# Altium integrated library ST Microcontroller 8-Bit.IntLib: 1326 symbols (part 27 of 45)
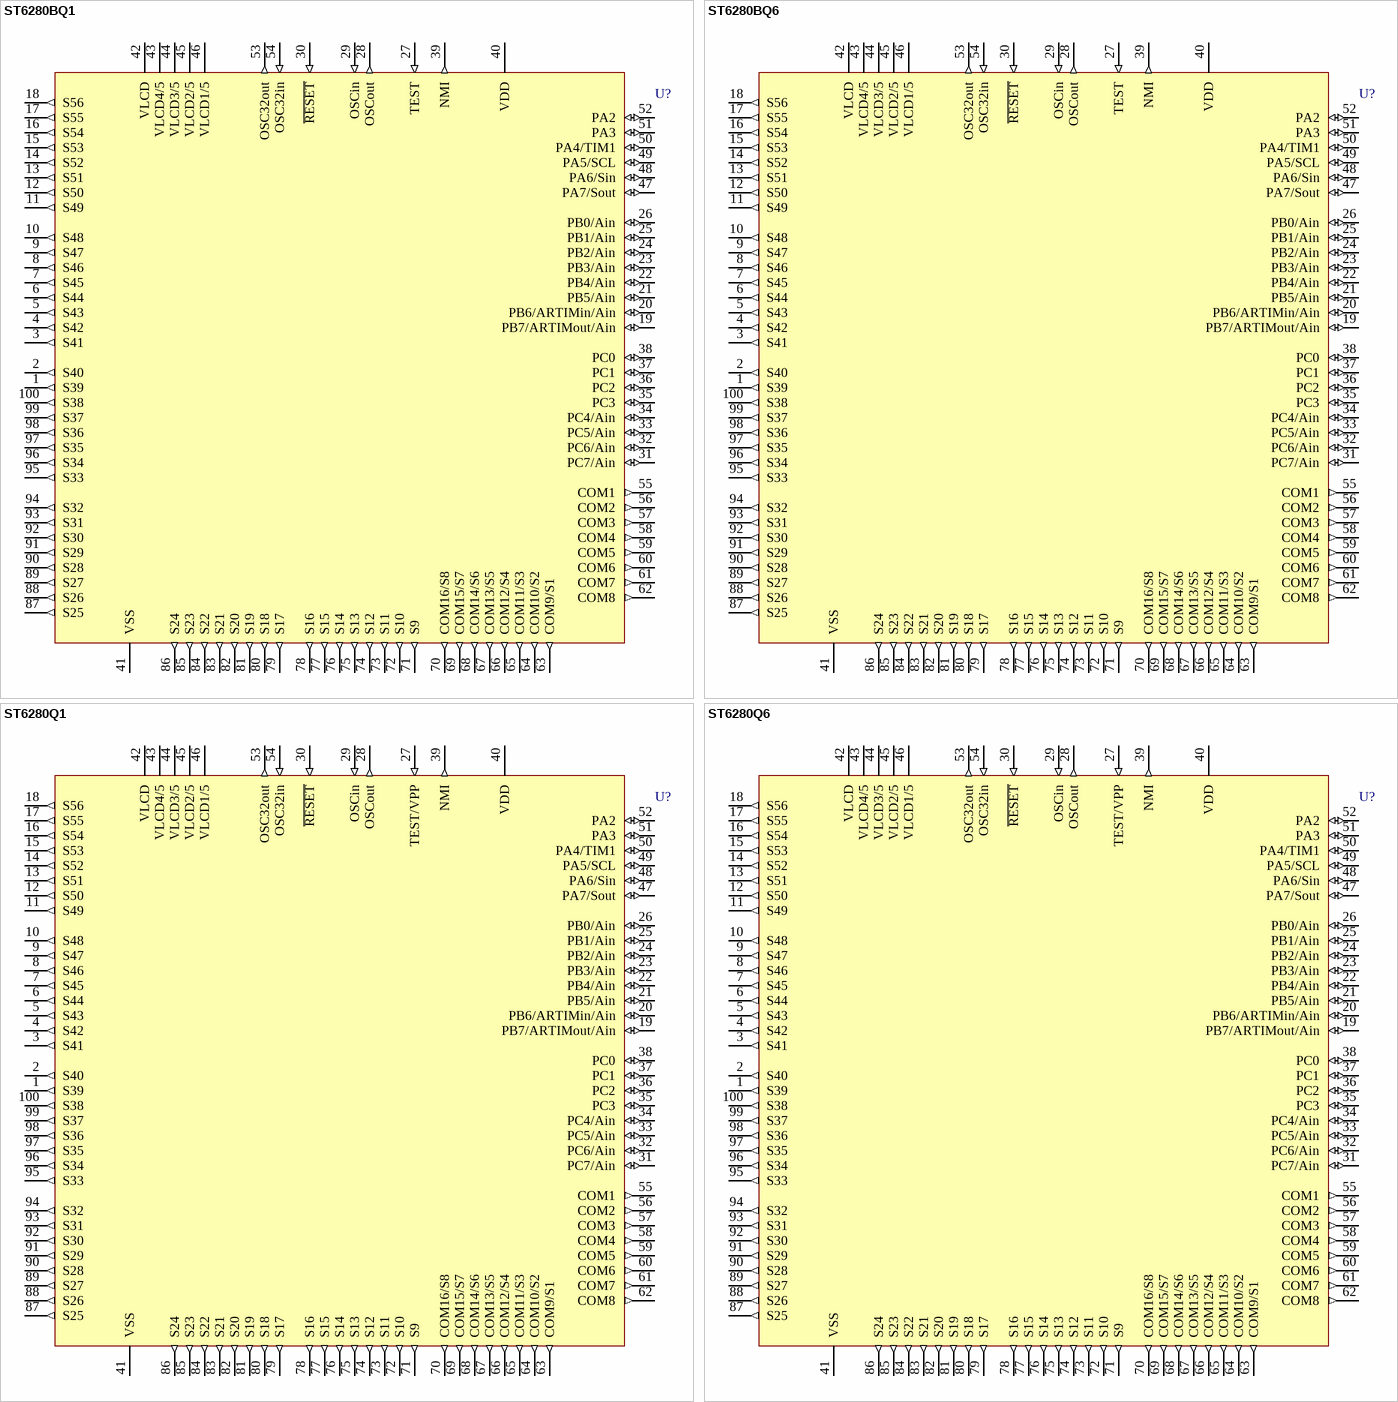
[diagram p193: symbols ST6280BQ1 to ST6280Q6]

## ST6280BQ1
designator U?
8-Bit ROM MCU with LCD Driver, EEPROM and A/D Converter, 100-Pin PQFP, Standard; Note: Pins 35-38, 47-49, 51 and 52 can also sink 20mA for direct LED or TRIAC drive.; Published: 26-May-2004; LatestRevisionDate: 13-Apr-2006; LatestRevisionNote: IPC-7351 Footprint Added.; DatasheetVersion: rev2.9, Jul-2001; PackageVersion: Jun-2003; PackageReference: PQFP100; Publisher: Altium Limited; PackageDescription: 100-Pin Plastic Quad Flat Pack Rectangular 0.65 mm Pitch; Code_IPC: QFP65P1720X2320-100; ComponentLink1Description: Manufacturer Link; ComponentLink1URL: http://www.st.com/; ComponentLink2Description: Datasheet; ComponentLink2URL: http://www.st.com/stonline/products/literature/ds/5517/st6280b.pdf
footprint PQFP100_N (QFP, 100-Leads, Body 20x14mm, Pitch 0.65mm, IPC Medium Density)
footprint PQFP100_L (QFP, 100-Leads, Body 20x14mm, Pitch 0.65mm, IPC High Density)
footprint PQFP100_M (QFP, 100-Leads, Body 20x14mm, Pitch 0.65mm, IPC Low Density)
3D model ST6280B-PQFP100 (100-Pin Plastic Quad Flat Pack Rectangular 0.65 mm Pitch)
pins: 1 S39 (out), 2 S40 (out), 3 S41 (out), 4 S42 (out), 5 S43 (out), 6 S44 (out), 7 S45 (out), 8 S46 (out), 9 S47 (out), 10 S48 (out), 11 S49 (out), 12 S50 (out), 13 S51 (out), 14 S52 (out), 15 S53 (out), 16 S54 (out), 17 S55 (out), 18 S56 (out), 19 PB7/ARTIMout/Ain (io), 20 PB6/ARTIMin/Ain (io), 21 PB5/Ain (io), 22 PB4/Ain (io), 23 PB3/Ain (io), 24 PB2/Ain (io), 25 PB1/Ain (io), 26 PB0/Ain (io), 27 TEST (in), 28 OSCout (out), 29 OSCin (in), 30 ~{RESET} (in), 31 PC7/Ain (io), 32 PC6/Ain (io), 33 PC5/Ain (io), 34 PC4/Ain (io), 35 PC3 (io), 36 PC2 (io), 37 PC1 (io), 38 PC0 (io), 39 NMI (out), 40 VDD (power), 41 VSS (power), 42 VLCD (power), 43 VLCD4/5 (power), 44 VLCD3/5 (power), 45 VLCD2/5 (power), 46 VLCD1/5 (power), 47 PA7/Sout (io), 48 PA6/Sin (io), 49 PA5/SCL (io), 50 PA4/TIM1 (io), 51 PA3 (io), 52 PA2 (io), 53 OSC32out (out), 54 OSC32in (in), 55 COM1 (out), 56 COM2 (out), 57 COM3 (out), 58 COM4 (out), 59 COM5 (out), 60 COM6 (out), 61 COM7 (out), 62 COM8 (out), 63 COM9/S1 (out), 64 COM10/S2 (out), 65 COM11/S3 (out), 66 COM12/S4 (out), 67 COM13/S5 (out), 68 COM14/S6 (out), 69 COM15/S7 (out), 70 COM16/S8 (out), 71 S9 (out), 72 S10 (out), 73 S11 (out), 74 S12 (out), 75 S13 (out), 76 S14 (out), 77 S15 (out), 78 S16 (out), 79 S17 (out), 80 S18 (out), 81 S19 (out), 82 S20 (out), 83 S21 (out), 84 S22 (out), 85 S23 (out), 86 S24 (out), 87 S25 (out), 88 S26 (out), 89 S27 (out), 90 S28 (out), 91 S29 (out), 92 S30 (out), 93 S31 (out), 94 S32 (out), 95 S33 (out), 96 S34 (out), 97 S35 (out), 98 S36 (out), 99 S37 (out), 100 S38 (out)

## ST6280BQ6
designator U?
8-Bit ROM MCU with LCD Driver, EEPROM and A/D Converter, 100-Pin PQFP, Industrial; Note: Pins 35-38, 47-49, 51 and 52 can also sink 20mA for direct LED or TRIAC drive.; Published: 26-May-2004; LatestRevisionDate: 13-Apr-2006; LatestRevisionNote: IPC-7351 Footprint Added.; DatasheetVersion: rev2.9, Jul-2001; PackageVersion: Jun-2003; PackageReference: PQFP100; Publisher: Altium Limited; PackageDescription: 100-Pin Plastic Quad Flat Pack Rectangular 0.65 mm Pitch; Code_IPC: QFP65P1720X2320-100; ComponentLink1Description: Manufacturer Link; ComponentLink1URL: http://www.st.com/; ComponentLink2Description: Datasheet; ComponentLink2URL: http://www.st.com/stonline/products/literature/ds/5517/st6280b.pdf
footprint PQFP100_N (QFP, 100-Leads, Body 20x14mm, Pitch 0.65mm, IPC Medium Density)
footprint PQFP100_L (QFP, 100-Leads, Body 20x14mm, Pitch 0.65mm, IPC High Density)
footprint PQFP100_M (QFP, 100-Leads, Body 20x14mm, Pitch 0.65mm, IPC Low Density)
3D model ST6280B-PQFP100 (100-Pin Plastic Quad Flat Pack Rectangular 0.65 mm Pitch)
pins: 1 S39 (out), 2 S40 (out), 3 S41 (out), 4 S42 (out), 5 S43 (out), 6 S44 (out), 7 S45 (out), 8 S46 (out), 9 S47 (out), 10 S48 (out), 11 S49 (out), 12 S50 (out), 13 S51 (out), 14 S52 (out), 15 S53 (out), 16 S54 (out), 17 S55 (out), 18 S56 (out), 19 PB7/ARTIMout/Ain (io), 20 PB6/ARTIMin/Ain (io), 21 PB5/Ain (io), 22 PB4/Ain (io), 23 PB3/Ain (io), 24 PB2/Ain (io), 25 PB1/Ain (io), 26 PB0/Ain (io), 27 TEST (in), 28 OSCout (out), 29 OSCin (in), 30 ~{RESET} (in), 31 PC7/Ain (io), 32 PC6/Ain (io), 33 PC5/Ain (io), 34 PC4/Ain (io), 35 PC3 (io), 36 PC2 (io), 37 PC1 (io), 38 PC0 (io), 39 NMI (out), 40 VDD (power), 41 VSS (power), 42 VLCD (power), 43 VLCD4/5 (power), 44 VLCD3/5 (power), 45 VLCD2/5 (power), 46 VLCD1/5 (power), 47 PA7/Sout (io), 48 PA6/Sin (io), 49 PA5/SCL (io), 50 PA4/TIM1 (io), 51 PA3 (io), 52 PA2 (io), 53 OSC32out (out), 54 OSC32in (in), 55 COM1 (out), 56 COM2 (out), 57 COM3 (out), 58 COM4 (out), 59 COM5 (out), 60 COM6 (out), 61 COM7 (out), 62 COM8 (out), 63 COM9/S1 (out), 64 COM10/S2 (out), 65 COM11/S3 (out), 66 COM12/S4 (out), 67 COM13/S5 (out), 68 COM14/S6 (out), 69 COM15/S7 (out), 70 COM16/S8 (out), 71 S9 (out), 72 S10 (out), 73 S11 (out), 74 S12 (out), 75 S13 (out), 76 S14 (out), 77 S15 (out), 78 S16 (out), 79 S17 (out), 80 S18 (out), 81 S19 (out), 82 S20 (out), 83 S21 (out), 84 S22 (out), 85 S23 (out), 86 S24 (out), 87 S25 (out), 88 S26 (out), 89 S27 (out), 90 S28 (out), 91 S29 (out), 92 S30 (out), 93 S31 (out), 94 S32 (out), 95 S33 (out), 96 S34 (out), 97 S35 (out), 98 S36 (out), 99 S37 (out), 100 S38 (out)

## ST6280Q1
designator U?
8-Bit HCMOS MCU with Dot Matrix LCD Driver, EEPROM and A/D Converter; Published: 24-Aug-2001; LatestRevisionDate: 13-Apr-2006; LatestRevisionNote: IPC-7351 Footprint Added.; DatasheetVersion: Apr-1995; PackageVersion: Jun-2003; PackageReference: PQFP100; Publisher: Altium Limited; PackageDescription: 100-Pin Plastic Quad Flat Pack Rectangular 0.65 mm Pitch; Code_IPC: QFP65P1720X2320-100; ComponentLink1Description: Manufacturer Link; ComponentLink1URL: http://www.st.com/
footprint PQFP100_N (QFP, 100-Leads, Body 20x14mm, Pitch 0.65mm, IPC Medium Density)
footprint PQFP100_L (QFP, 100-Leads, Body 20x14mm, Pitch 0.65mm, IPC High Density)
footprint PQFP100_M (QFP, 100-Leads, Body 20x14mm, Pitch 0.65mm, IPC Low Density)
3D model ST6280-PQFP100 (100-Pin Plastic Quad Flat Pack Rectangular 0.65 mm Pitch)
pins: 1 S39 (out), 2 S40 (out), 3 S41 (out), 4 S42 (out), 5 S43 (out), 6 S44 (out), 7 S45 (out), 8 S46 (out), 9 S47 (out), 10 S48 (out), 11 S49 (out), 12 S50 (out), 13 S51 (out), 14 S52 (out), 15 S53 (out), 16 S54 (out), 17 S55 (out), 18 S56 (out), 19 PB7/ARTIMout/Ain (io), 20 PB6/ARTIMin/Ain (io), 21 PB5/Ain (io), 22 PB4/Ain (io), 23 PB3/Ain (io), 24 PB2/Ain (io), 25 PB1/Ain (io), 26 PB0/Ain (io), 27 TEST/VPP (in), 28 OSCout (out), 29 OSCin (in), 30 ~{RESET} (in), 31 PC7/Ain (io), 32 PC6/Ain (io), 33 PC5/Ain (io), 34 PC4/Ain (io), 35 PC3 (io), 36 PC2 (io), 37 PC1 (io), 38 PC0 (io), 39 NMI (out), 40 VDD (power), 41 VSS (power), 42 VLCD (power), 43 VLCD4/5 (power), 44 VLCD3/5 (power), 45 VLCD2/5 (power), 46 VLCD1/5 (power), 47 PA7/Sout (io), 48 PA6/Sin (io), 49 PA5/SCL (io), 50 PA4/TIM1 (io), 51 PA3 (io), 52 PA2 (io), 53 OSC32out (out), 54 OSC32in (in), 55 COM1 (out), 56 COM2 (out), 57 COM3 (out), 58 COM4 (out), 59 COM5 (out), 60 COM6 (out), 61 COM7 (out), 62 COM8 (out), 63 COM9/S1 (out), 64 COM10/S2 (out), 65 COM11/S3 (out), 66 COM12/S4 (out), 67 COM13/S5 (out), 68 COM14/S6 (out), 69 COM15/S7 (out), 70 COM16/S8 (out), 71 S9 (out), 72 S10 (out), 73 S11 (out), 74 S12 (out), 75 S13 (out), 76 S14 (out), 77 S15 (out), 78 S16 (out), 79 S17 (out), 80 S18 (out), 81 S19 (out), 82 S20 (out), 83 S21 (out), 84 S22 (out), 85 S23 (out), 86 S24 (out), 87 S25 (out), 88 S26 (out), 89 S27 (out), 90 S28 (out), 91 S29 (out), 92 S30 (out), 93 S31 (out), 94 S32 (out), 95 S33 (out), 96 S34 (out), 97 S35 (out), 98 S36 (out), 99 S37 (out), 100 S38 (out)

## ST6280Q6
designator U?
8-Bit HCMOS MCU with Dot Matrix LCD Driver, EEPROM and A/D Converter; Published: 24-Aug-2001; LatestRevisionDate: 13-Apr-2006; LatestRevisionNote: IPC-7351 Footprint Added.; DatasheetVersion: Apr-1995; PackageVersion: Jun-2003; PackageReference: PQFP100; Publisher: Altium Limited; PackageDescription: 100-Pin Plastic Quad Flat Pack Rectangular 0.65 mm Pitch; Code_IPC: QFP65P1720X2320-100; ComponentLink1Description: Manufacturer Link; ComponentLink1URL: http://www.st.com/
footprint PQFP100_N (QFP, 100-Leads, Body 20x14mm, Pitch 0.65mm, IPC Medium Density)
footprint PQFP100_L (QFP, 100-Leads, Body 20x14mm, Pitch 0.65mm, IPC High Density)
footprint PQFP100_M (QFP, 100-Leads, Body 20x14mm, Pitch 0.65mm, IPC Low Density)
3D model ST6280-PQFP100 (100-Pin Plastic Quad Flat Pack Rectangular 0.65 mm Pitch)
pins: 1 S39 (out), 2 S40 (out), 3 S41 (out), 4 S42 (out), 5 S43 (out), 6 S44 (out), 7 S45 (out), 8 S46 (out), 9 S47 (out), 10 S48 (out), 11 S49 (out), 12 S50 (out), 13 S51 (out), 14 S52 (out), 15 S53 (out), 16 S54 (out), 17 S55 (out), 18 S56 (out), 19 PB7/ARTIMout/Ain (io), 20 PB6/ARTIMin/Ain (io), 21 PB5/Ain (io), 22 PB4/Ain (io), 23 PB3/Ain (io), 24 PB2/Ain (io), 25 PB1/Ain (io), 26 PB0/Ain (io), 27 TEST/VPP (in), 28 OSCout (out), 29 OSCin (in), 30 ~{RESET} (in), 31 PC7/Ain (io), 32 PC6/Ain (io), 33 PC5/Ain (io), 34 PC4/Ain (io), 35 PC3 (io), 36 PC2 (io), 37 PC1 (io), 38 PC0 (io), 39 NMI (out), 40 VDD (power), 41 VSS (power), 42 VLCD (power), 43 VLCD4/5 (power), 44 VLCD3/5 (power), 45 VLCD2/5 (power), 46 VLCD1/5 (power), 47 PA7/Sout (io), 48 PA6/Sin (io), 49 PA5/SCL (io), 50 PA4/TIM1 (io), 51 PA3 (io), 52 PA2 (io), 53 OSC32out (out), 54 OSC32in (in), 55 COM1 (out), 56 COM2 (out), 57 COM3 (out), 58 COM4 (out), 59 COM5 (out), 60 COM6 (out), 61 COM7 (out), 62 COM8 (out), 63 COM9/S1 (out), 64 COM10/S2 (out), 65 COM11/S3 (out), 66 COM12/S4 (out), 67 COM13/S5 (out), 68 COM14/S6 (out), 69 COM15/S7 (out), 70 COM16/S8 (out), 71 S9 (out), 72 S10 (out), 73 S11 (out), 74 S12 (out), 75 S13 (out), 76 S14 (out), 77 S15 (out), 78 S16 (out), 79 S17 (out), 80 S18 (out), 81 S19 (out), 82 S20 (out), 83 S21 (out), 84 S22 (out), 85 S23 (out), 86 S24 (out), 87 S25 (out), 88 S26 (out), 89 S27 (out), 90 S28 (out), 91 S29 (out), 92 S30 (out), 93 S31 (out), 94 S32 (out), 95 S33 (out), 96 S34 (out), 97 S35 (out), 98 S36 (out), 99 S37 (out), 100 S38 (out)

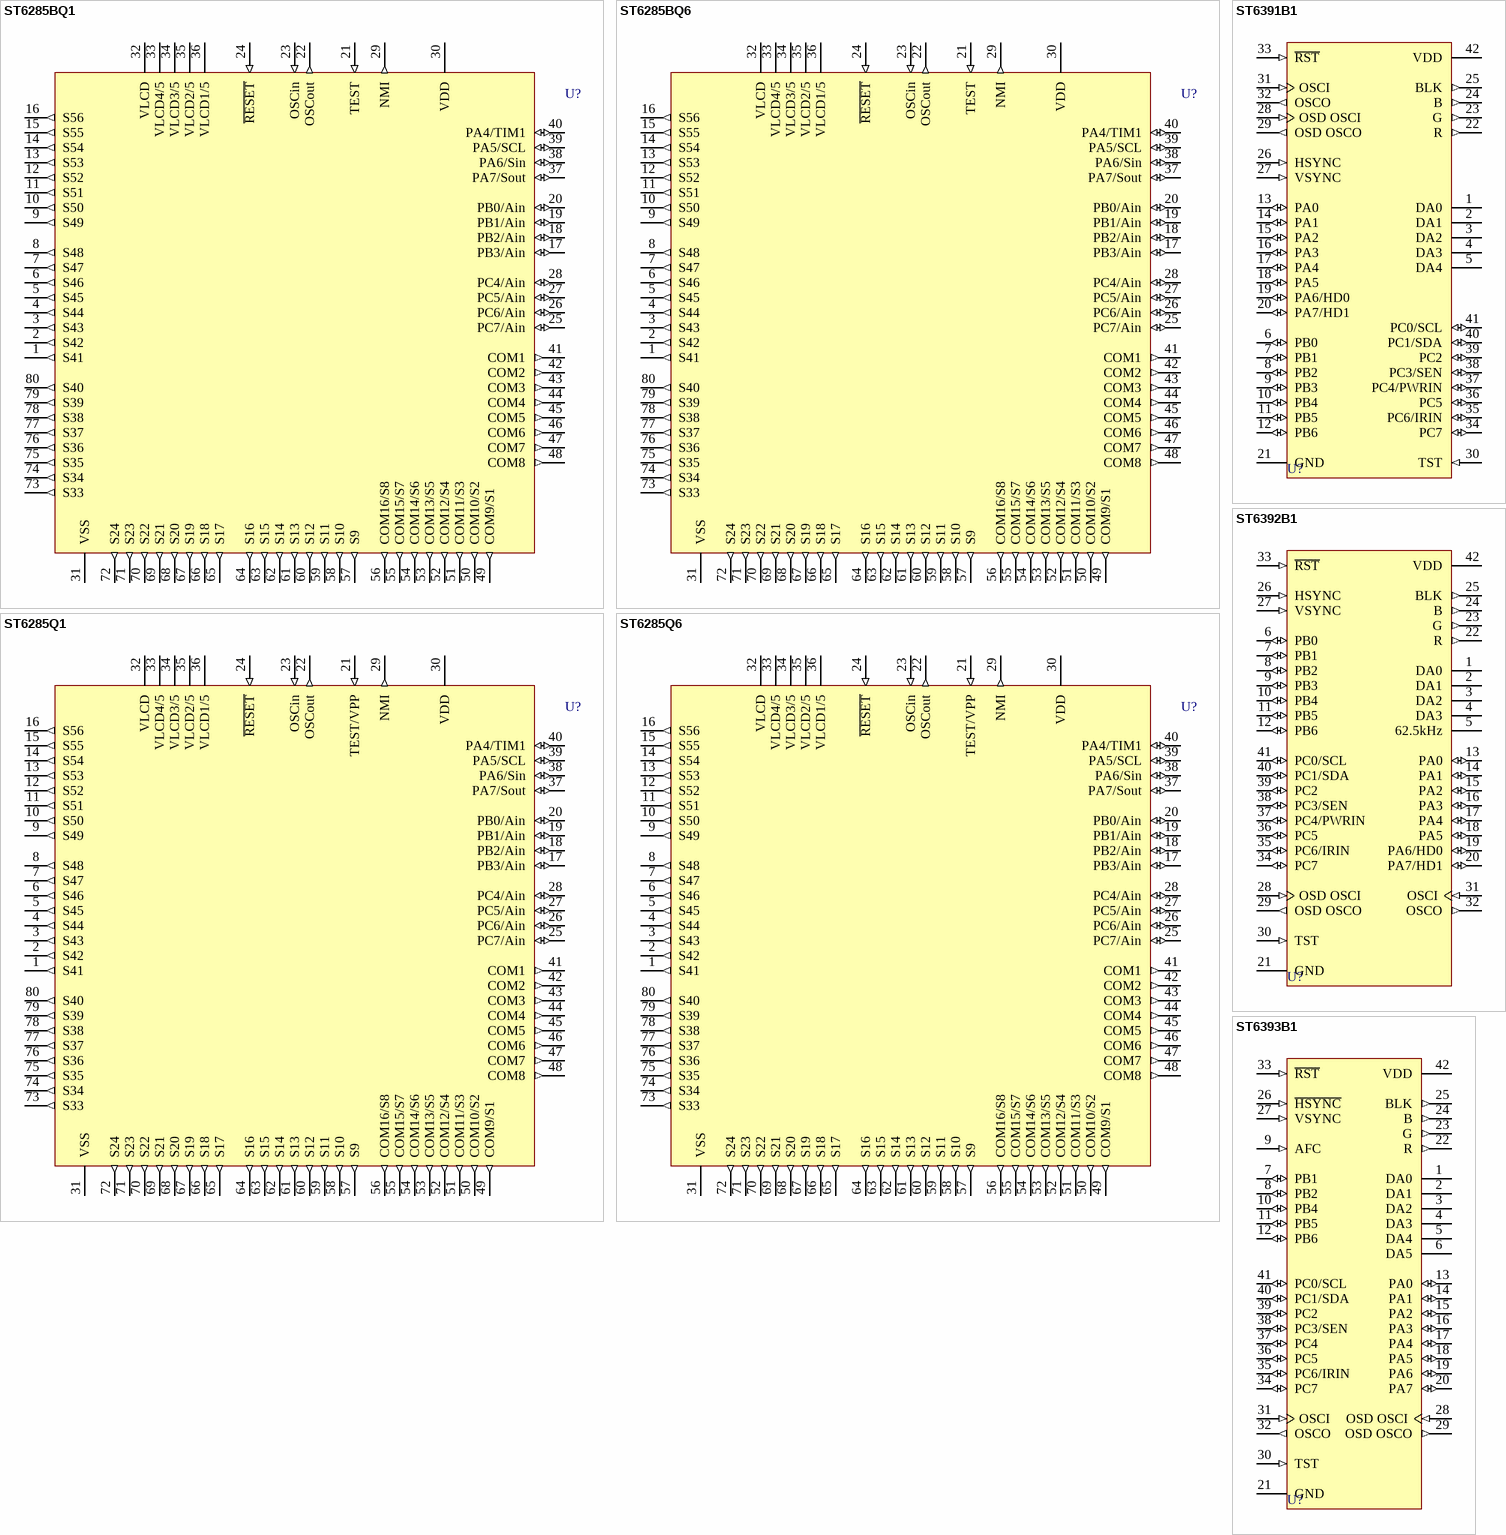
[diagram p91: symbols ST6285BQ1 to ST6393B1]

## ST6285BQ1
designator U?
8-Bit ROM MCU with LCD Driver, EEPROM and A/D Converter, 80-Pin PQFP, Standard; Note: Pins 37 to 40 can also sink 20mA for direct LED or TRIAC drive.; Published: 26-May-2004; LatestRevisionDate: 13-Apr-2006; LatestRevisionNote: IPC-7351 Footprint Added.; DatasheetVersion: rev2.6, Jul-2001; PackageVersion: Jul-2001; PackageReference: PQFP80; Publisher: Altium Limited; PackageDescription: 80-Pin Plastic Quad Flat Pack Rectangular 0.8 mm Pitch; ComponentLink1Description: Manufacturer Link; ComponentLink1URL: http://www.st.com/; ComponentLink2Description: Datasheet; ComponentLink2URL: http://www.st.com/stonline/products/literature/ds/5695/st6285b.pdf
footprint PQFP80_N (QFP, 80-Leads, Body 20x14mm, Pitch 0.8mm, IPC Medium Density)
footprint PQFP80_L (QFP, 80-Leads, Body 20x14mm, Pitch 0.8mm, IPC High Density)
footprint PQFP80_M (QFP, 80-Leads, Body 20x14mm, Pitch 0.8mm, IPC Low Density)
3D model ST6285B-PQFP80 (80-Pin Plastic Quad Flat Pack Rectangular 0.8 mm Pitch)
pins: 1 S41 (out), 2 S42 (out), 3 S43 (out), 4 S44 (out), 5 S45 (out), 6 S46 (out), 7 S47 (out), 8 S48 (out), 9 S49 (out), 10 S50 (out), 11 S51 (out), 12 S52 (out), 13 S53 (out), 14 S54 (out), 15 S55 (out), 16 S56 (out), 17 PB3/Ain (io), 18 PB2/Ain (io), 19 PB1/Ain (io), 20 PB0/Ain (io), 21 TEST (in), 22 OSCout (out), 23 OSCin (in), 24 ~{RESET} (in), 25 PC7/Ain (io), 26 PC6/Ain (io), 27 PC5/Ain (io), 28 PC4/Ain (io), 29 NMI (out), 30 VDD (power), 31 VSS (power), 32 VLCD (power), 33 VLCD4/5 (power), 34 VLCD3/5 (power), 35 VLCD2/5 (power), 36 VLCD1/5 (power), 37 PA7/Sout (io), 38 PA6/Sin (io), 39 PA5/SCL (io), 40 PA4/TIM1 (io), 41 COM1 (out), 42 COM2 (out), 43 COM3 (out), 44 COM4 (out), 45 COM5 (out), 46 COM6 (out), 47 COM7 (out), 48 COM8 (out), 49 COM9/S1 (out), 50 COM10/S2 (out), 51 COM11/S3 (out), 52 COM12/S4 (out), 53 COM13/S5 (out), 54 COM14/S6 (out), 55 COM15/S7 (out), 56 COM16/S8 (out), 57 S9 (out), 58 S10 (out), 59 S11 (out), 60 S12 (out), 61 S13 (out), 62 S14 (out), 63 S15 (out), 64 S16 (out), 65 S17 (out), 66 S18 (out), 67 S19 (out), 68 S20 (out), 69 S21 (out), 70 S22 (out), 71 S23 (out), 72 S24 (out), 73 S33 (out), 74 S34 (out), 75 S35 (out), 76 S36 (out), 77 S37 (out), 78 S38 (out), 79 S39 (out), 80 S40 (out)

## ST6285BQ6
designator U?
8-Bit ROM MCU with LCD Driver, EEPROM and A/D Converter, 80-Pin PQFP, Industrial; Note: Pins 37 to 40 can also sink 20mA for direct LED or TRIAC drive.; Published: 26-May-2004; LatestRevisionDate: 13-Apr-2006; LatestRevisionNote: IPC-7351 Footprint Added.; DatasheetVersion: rev2.6, Jul-2001; PackageVersion: Jul-2001; PackageReference: PQFP80; Publisher: Altium Limited; PackageDescription: 80-Pin Plastic Quad Flat Pack Rectangular 0.8 mm Pitch; ComponentLink1Description: Manufacturer Link; ComponentLink1URL: http://www.st.com/; ComponentLink2Description: Datasheet; ComponentLink2URL: http://www.st.com/stonline/products/literature/ds/5695/st6285b.pdf
footprint PQFP80_N (QFP, 80-Leads, Body 20x14mm, Pitch 0.8mm, IPC Medium Density)
footprint PQFP80_L (QFP, 80-Leads, Body 20x14mm, Pitch 0.8mm, IPC High Density)
footprint PQFP80_M (QFP, 80-Leads, Body 20x14mm, Pitch 0.8mm, IPC Low Density)
3D model ST6285B-PQFP80 (80-Pin Plastic Quad Flat Pack Rectangular 0.8 mm Pitch)
pins: 1 S41 (out), 2 S42 (out), 3 S43 (out), 4 S44 (out), 5 S45 (out), 6 S46 (out), 7 S47 (out), 8 S48 (out), 9 S49 (out), 10 S50 (out), 11 S51 (out), 12 S52 (out), 13 S53 (out), 14 S54 (out), 15 S55 (out), 16 S56 (out), 17 PB3/Ain (io), 18 PB2/Ain (io), 19 PB1/Ain (io), 20 PB0/Ain (io), 21 TEST (in), 22 OSCout (out), 23 OSCin (in), 24 ~{RESET} (in), 25 PC7/Ain (io), 26 PC6/Ain (io), 27 PC5/Ain (io), 28 PC4/Ain (io), 29 NMI (out), 30 VDD (power), 31 VSS (power), 32 VLCD (power), 33 VLCD4/5 (power), 34 VLCD3/5 (power), 35 VLCD2/5 (power), 36 VLCD1/5 (power), 37 PA7/Sout (io), 38 PA6/Sin (io), 39 PA5/SCL (io), 40 PA4/TIM1 (io), 41 COM1 (out), 42 COM2 (out), 43 COM3 (out), 44 COM4 (out), 45 COM5 (out), 46 COM6 (out), 47 COM7 (out), 48 COM8 (out), 49 COM9/S1 (out), 50 COM10/S2 (out), 51 COM11/S3 (out), 52 COM12/S4 (out), 53 COM13/S5 (out), 54 COM14/S6 (out), 55 COM15/S7 (out), 56 COM16/S8 (out), 57 S9 (out), 58 S10 (out), 59 S11 (out), 60 S12 (out), 61 S13 (out), 62 S14 (out), 63 S15 (out), 64 S16 (out), 65 S17 (out), 66 S18 (out), 67 S19 (out), 68 S20 (out), 69 S21 (out), 70 S22 (out), 71 S23 (out), 72 S24 (out), 73 S33 (out), 74 S34 (out), 75 S35 (out), 76 S36 (out), 77 S37 (out), 78 S38 (out), 79 S39 (out), 80 S40 (out)

## ST6285Q1
designator U?
8-Bit HCMOS MCU with Dot Matrix LCD Driver and A/D Converter; Published: 24-Aug-2001; LatestRevisionDate: 13-Apr-2006; LatestRevisionNote: IPC-7351 Footprint Added.; DatasheetVersion: Apr-1995; PackageVersion: Jul-2001; PackageReference: PQFP80; Publisher: Altium Limited; PackageDescription: 80-Pin Plastic Quad Flat Pack Rectangular 0.8 mm Pitch; ComponentLink1Description: Manufacturer Link; ComponentLink1URL: http://www.st.com/
footprint PQFP80_N (QFP, 80-Leads, Body 20x14mm, Pitch 0.8mm, IPC Medium Density)
footprint PQFP80_L (QFP, 80-Leads, Body 20x14mm, Pitch 0.8mm, IPC High Density)
footprint PQFP80_M (QFP, 80-Leads, Body 20x14mm, Pitch 0.8mm, IPC Low Density)
3D model ST6285-PQFP80 (80-Pin Plastic Quad Flat Pack Rectangular 0.8 mm Pitch)
pins: 1 S41 (out), 2 S42 (out), 3 S43 (out), 4 S44 (out), 5 S45 (out), 6 S46 (out), 7 S47 (out), 8 S48 (out), 9 S49 (out), 10 S50 (out), 11 S51 (out), 12 S52 (out), 13 S53 (out), 14 S54 (out), 15 S55 (out), 16 S56 (out), 17 PB3/Ain (io), 18 PB2/Ain (io), 19 PB1/Ain (io), 20 PB0/Ain (io), 21 TEST/VPP (in), 22 OSCout (out), 23 OSCin (in), 24 ~{RESET} (in), 25 PC7/Ain (io), 26 PC6/Ain (io), 27 PC5/Ain (io), 28 PC4/Ain (io), 29 NMI (out), 30 VDD (power), 31 VSS (power), 32 VLCD (power), 33 VLCD4/5 (power), 34 VLCD3/5 (power), 35 VLCD2/5 (power), 36 VLCD1/5 (power), 37 PA7/Sout (io), 38 PA6/Sin (io), 39 PA5/SCL (io), 40 PA4/TIM1 (io), 41 COM1 (out), 42 COM2 (out), 43 COM3 (out), 44 COM4 (out), 45 COM5 (out), 46 COM6 (out), 47 COM7 (out), 48 COM8 (out), 49 COM9/S1 (out), 50 COM10/S2 (out), 51 COM11/S3 (out), 52 COM12/S4 (out), 53 COM13/S5 (out), 54 COM14/S6 (out), 55 COM15/S7 (out), 56 COM16/S8 (out), 57 S9 (out), 58 S10 (out), 59 S11 (out), 60 S12 (out), 61 S13 (out), 62 S14 (out), 63 S15 (out), 64 S16 (out), 65 S17 (out), 66 S18 (out), 67 S19 (out), 68 S20 (out), 69 S21 (out), 70 S22 (out), 71 S23 (out), 72 S24 (out), 73 S33 (out), 74 S34 (out), 75 S35 (out), 76 S36 (out), 77 S37 (out), 78 S38 (out), 79 S39 (out), 80 S40 (out)

## ST6285Q6
designator U?
8-Bit HCMOS MCU with Dot Matrix LCD Driver and A/D Converter; Published: 24-Aug-2001; LatestRevisionDate: 13-Apr-2006; LatestRevisionNote: IPC-7351 Footprint Added.; DatasheetVersion: Apr-1995; PackageVersion: Jul-2001; PackageReference: PQFP80; Publisher: Altium Limited; PackageDescription: 80-Pin Plastic Quad Flat Pack Rectangular 0.8 mm Pitch; ComponentLink1Description: Manufacturer Link; ComponentLink1URL: http://www.st.com/
footprint PQFP80_N (QFP, 80-Leads, Body 20x14mm, Pitch 0.8mm, IPC Medium Density)
footprint PQFP80_L (QFP, 80-Leads, Body 20x14mm, Pitch 0.8mm, IPC High Density)
footprint PQFP80_M (QFP, 80-Leads, Body 20x14mm, Pitch 0.8mm, IPC Low Density)
3D model ST6285-PQFP80 (80-Pin Plastic Quad Flat Pack Rectangular 0.8 mm Pitch)
pins: 1 S41 (out), 2 S42 (out), 3 S43 (out), 4 S44 (out), 5 S45 (out), 6 S46 (out), 7 S47 (out), 8 S48 (out), 9 S49 (out), 10 S50 (out), 11 S51 (out), 12 S52 (out), 13 S53 (out), 14 S54 (out), 15 S55 (out), 16 S56 (out), 17 PB3/Ain (io), 18 PB2/Ain (io), 19 PB1/Ain (io), 20 PB0/Ain (io), 21 TEST/VPP (in), 22 OSCout (out), 23 OSCin (in), 24 ~{RESET} (in), 25 PC7/Ain (io), 26 PC6/Ain (io), 27 PC5/Ain (io), 28 PC4/Ain (io), 29 NMI (out), 30 VDD (power), 31 VSS (power), 32 VLCD (power), 33 VLCD4/5 (power), 34 VLCD3/5 (power), 35 VLCD2/5 (power), 36 VLCD1/5 (power), 37 PA7/Sout (io), 38 PA6/Sin (io), 39 PA5/SCL (io), 40 PA4/TIM1 (io), 41 COM1 (out), 42 COM2 (out), 43 COM3 (out), 44 COM4 (out), 45 COM5 (out), 46 COM6 (out), 47 COM7 (out), 48 COM8 (out), 49 COM9/S1 (out), 50 COM10/S2 (out), 51 COM11/S3 (out), 52 COM12/S4 (out), 53 COM13/S5 (out), 54 COM14/S6 (out), 55 COM15/S7 (out), 56 COM16/S8 (out), 57 S9 (out), 58 S10 (out), 59 S11 (out), 60 S12 (out), 61 S13 (out), 62 S14 (out), 63 S15 (out), 64 S16 (out), 65 S17 (out), 66 S18 (out), 67 S19 (out), 68 S20 (out), 69 S21 (out), 70 S22 (out), 71 S23 (out), 72 S24 (out), 73 S33 (out), 74 S34 (out), 75 S35 (out), 76 S36 (out), 77 S37 (out), 78 S38 (out), 79 S39 (out), 80 S40 (out)

## ST6391B1
designator U?
8-Bit HCMOS MCU For TV Frequency Synthesis with OSD; Published: 24-Aug-2001; LatestRevisionDate: 06-Jun-2005; LatestRevisionNote: Stylized 3D Model Added.; DatasheetVersion: Oct-1993; PackageVersion: Oct-2003; PackageReference: PSDIP42; Publisher: Altium Limited; PackageDescription: DIP, Plastic Shrink; 42 Leads; Row Spacing 15.24 mm; Pitch 1.78 mm; ComponentLink1Description: Manufacturer Link; ComponentLink1URL: http://www.st.com/
footprint PSDIP42 (DIP, Plastic Shrink; 42 Leads; Row Spacing 15.24 mm; Pitch 1.78 mm)
3D model PSDIP42 (DIP, Plastic Shrink; 42 Leads; Row Spacing 15.24 mm; Pitch 1.78 mm)
pins: 1 DA0 (oc), 2 DA1 (oc), 3 DA2 (oc), 4 DA3 (oc), 5 DA4 (oc), 6 PB0 (io), 7 PB1 (io), 8 PB2 (io), 9 PB3 (io), 10 PB4 (io), 11 PB5 (io), 12 PB6 (io), 13 PA0 (io), 14 PA1 (io), 15 PA2 (io), 16 PA3 (io), 17 PA4 (io), 18 PA5 (io), 19 PA6/HD0 (io), 20 PA7/HD1 (io), 21 GND (power), 22 R (out), 23 G (out), 24 B (out), 25 BLK (out), 26 HSYNC (in), 27 VSYNC (in), 28 OSD OSCI (in), 29 OSD OSCO (out), 30 TST (in), 31 OSCI (in), 32 OSCO (out), 33 ~{RST} (in), 34 PC7 (io), 35 PC6/IRIN (io), 36 PC5 (io), 37 PC4/PWRIN (io), 38 PC3/SEN (io), 39 PC2 (io), 40 PC1/SDA (io), 41 PC0/SCL (io), 42 VDD (power)

## ST6392B1
designator U?
8-Bit HCMOS MCU For TV Frequency Synthesis with OSD; Published: 24-Aug-2001; LatestRevisionDate: 06-Jun-2005; LatestRevisionNote: Stylized 3D Model Added.; DatasheetVersion: Oct-1993; PackageVersion: Oct-2003; PackageReference: PSDIP42; Publisher: Altium Limited; PackageDescription: DIP, Plastic Shrink; 42 Leads; Row Spacing 15.24 mm; Pitch 1.78 mm; ComponentLink1Description: Manufacturer Link; ComponentLink1URL: http://www.st.com/
footprint PSDIP42 (DIP, Plastic Shrink; 42 Leads; Row Spacing 15.24 mm; Pitch 1.78 mm)
3D model PSDIP42 (DIP, Plastic Shrink; 42 Leads; Row Spacing 15.24 mm; Pitch 1.78 mm)
pins: 1 DA0 (oc), 2 DA1 (oc), 3 DA2 (oc), 4 DA3 (oc), 5 62.5kHz (oc), 6 PB0 (io), 7 PB1 (io), 8 PB2 (io), 9 PB3 (io), 10 PB4 (io), 11 PB5 (io), 12 PB6 (io), 13 PA0 (io), 14 PA1 (io), 15 PA2 (io), 16 PA3 (io), 17 PA4 (io), 18 PA5 (io), 19 PA6/HD0 (io), 20 PA7/HD1 (io), 21 GND (power), 22 R (out), 23 G (out), 24 B (out), 25 BLK (out), 26 HSYNC (in), 27 VSYNC (in), 28 OSD OSCI (in), 29 OSD OSCO (out), 30 TST (in), 31 OSCI (in), 32 OSCO (out), 33 ~{RST} (in), 34 PC7 (io), 35 PC6/IRIN (io), 36 PC5 (io), 37 PC4/PWRIN (io), 38 PC3/SEN (io), 39 PC2 (io), 40 PC1/SDA (io), 41 PC0/SCL (io), 42 VDD (power)

## ST6393B1
designator U?
8-Bit HCMOS MCU For TV Frequency Synthesis with OSD; Published: 24-Aug-2001; LatestRevisionDate: 06-Jun-2005; LatestRevisionNote: Stylized 3D Model Added.; DatasheetVersion: Oct-1993; PackageVersion: Oct-2003; PackageReference: PSDIP42; Publisher: Altium Limited; PackageDescription: DIP, Plastic Shrink; 42 Leads; Row Spacing 15.24 mm; Pitch 1.78 mm; ComponentLink1Description: Manufacturer Link; ComponentLink1URL: http://www.st.com/
footprint PSDIP42 (DIP, Plastic Shrink; 42 Leads; Row Spacing 15.24 mm; Pitch 1.78 mm)
3D model PSDIP42 (DIP, Plastic Shrink; 42 Leads; Row Spacing 15.24 mm; Pitch 1.78 mm)
pins: 1 DA0 (oc), 2 DA1 (oc), 3 DA2 (oc), 4 DA3 (oc), 5 DA4 (oc), 6 DA5 (oc), 7 PB1 (io), 8 PB2 (io), 9 AFC (in), 10 PB4 (io), 11 PB5 (io), 12 PB6 (io), 13 PA0 (io), 14 PA1 (io), 15 PA2 (io), 16 PA3 (io), 17 PA4 (io), 18 PA5 (io), 19 PA6 (io), 20 PA7 (io), 21 GND (power), 22 R (out), 23 G (out), 24 B (out), 25 BLK (out), 26 ~{HSYNC} (in), 27 VSYNC (in), 28 OSD OSCI (in), 29 OSD OSCO (out), 30 TST (in), 31 OSCI (in), 32 OSCO (out), 33 ~{RST} (in), 34 PC7 (io), 35 PC6/IRIN (io), 36 PC5 (io), 37 PC4 (io), 38 PC3/SEN (io), 39 PC2 (io), 40 PC1/SDA (io), 41 PC0/SCL (io), 42 VDD (power)

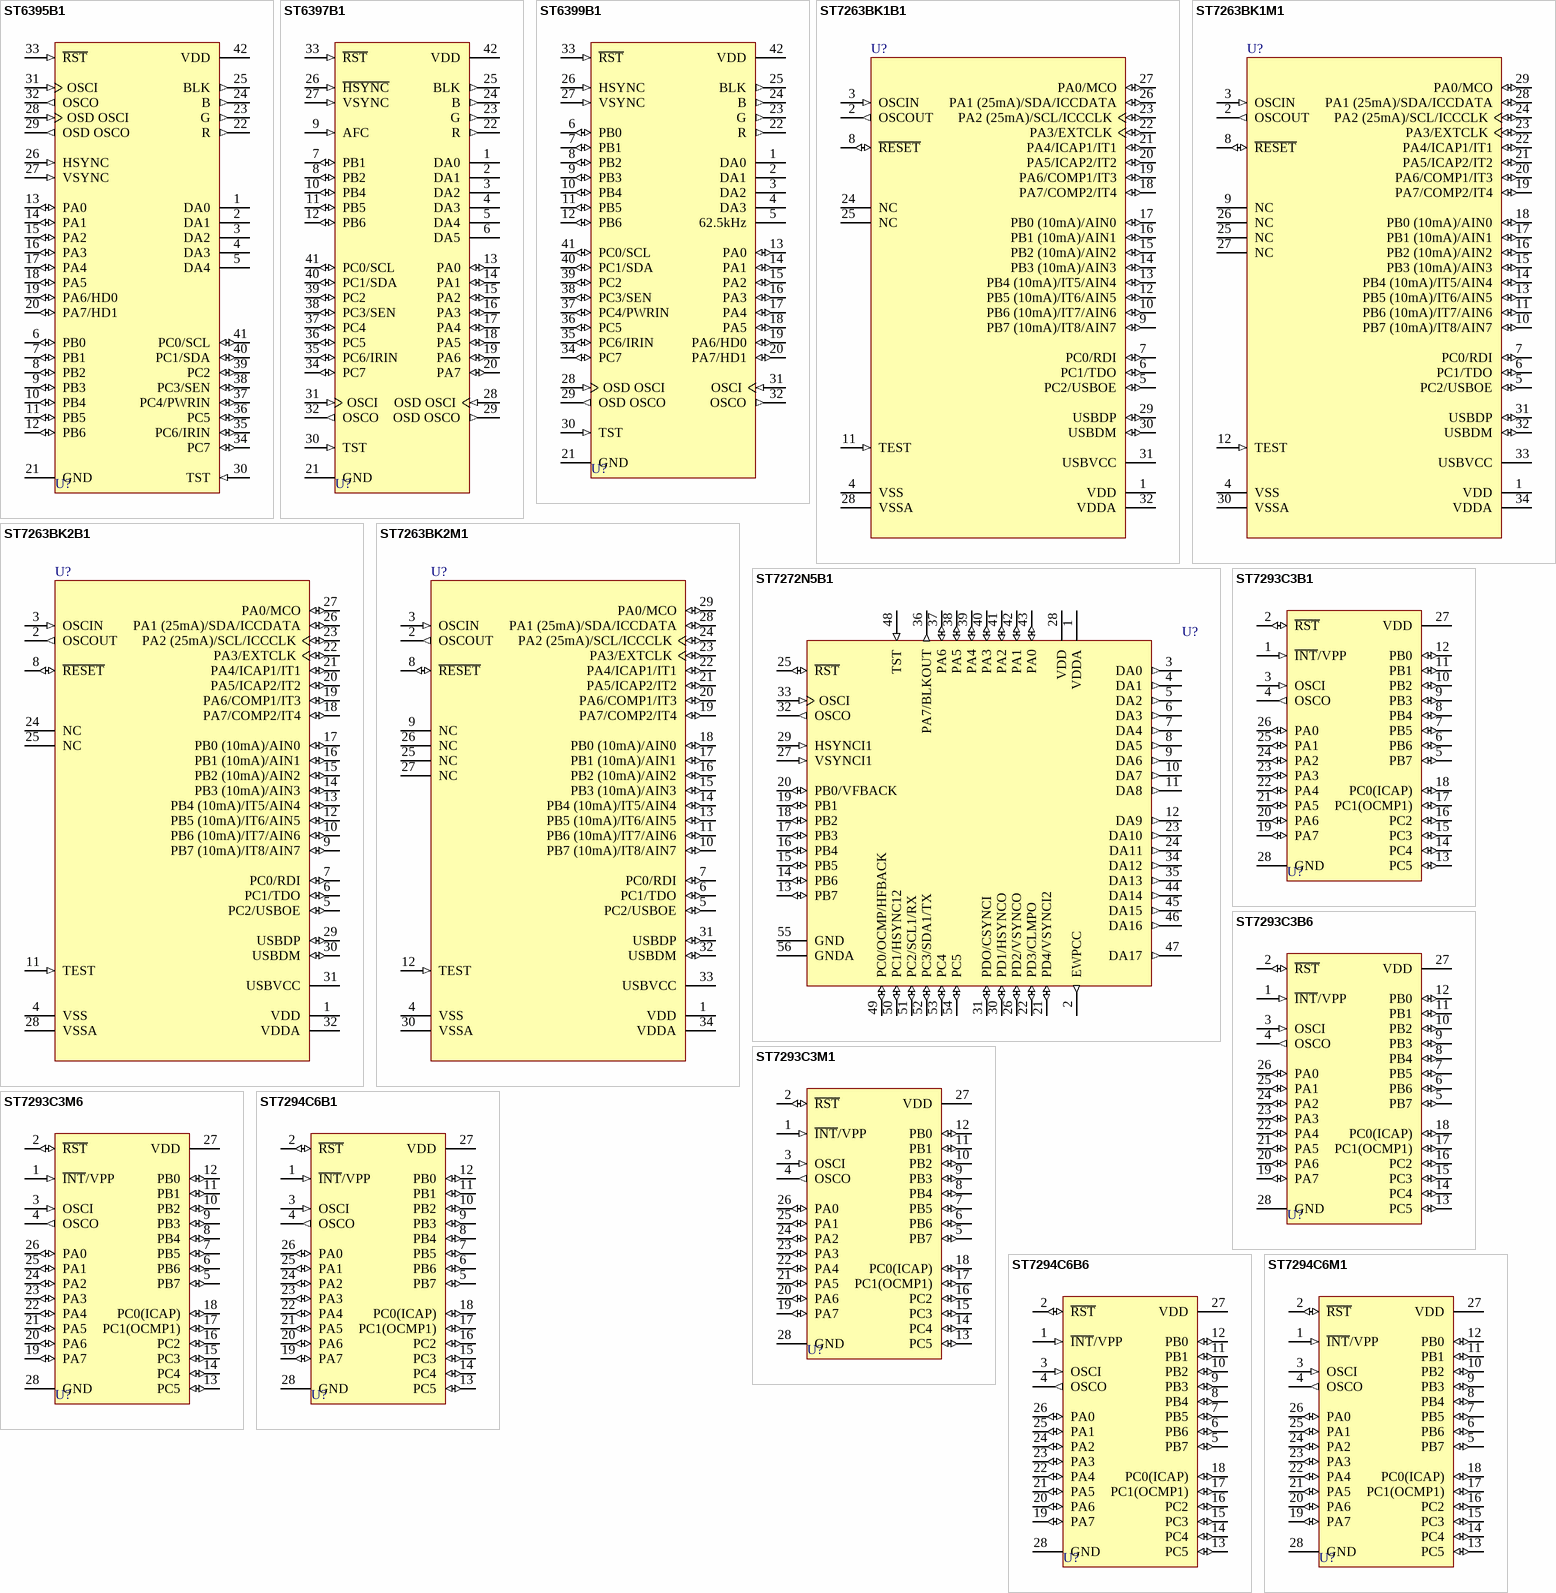
[diagram p92: symbols ST6395B1 to ST7294C6M1]

## ST6395B1
designator U?
8-Bit HCMOS MCU For TV Frequency Synthesis with OSD; Published: 24-Aug-2001; LatestRevisionDate: 06-Jun-2005; LatestRevisionNote: Stylized 3D Model Added.; DatasheetVersion: Oct-1993; PackageVersion: Oct-2003; PackageReference: PSDIP42; Publisher: Altium Limited; PackageDescription: DIP, Plastic Shrink; 42 Leads; Row Spacing 15.24 mm; Pitch 1.78 mm; ComponentLink1Description: Manufacturer Link; ComponentLink1URL: http://www.st.com/
footprint PSDIP42 (DIP, Plastic Shrink; 42 Leads; Row Spacing 15.24 mm; Pitch 1.78 mm)
3D model PSDIP42 (DIP, Plastic Shrink; 42 Leads; Row Spacing 15.24 mm; Pitch 1.78 mm)
pins: 1 DA0 (oc), 2 DA1 (oc), 3 DA2 (oc), 4 DA3 (oc), 5 DA4 (oc), 6 PB0 (io), 7 PB1 (io), 8 PB2 (io), 9 PB3 (io), 10 PB4 (io), 11 PB5 (io), 12 PB6 (io), 13 PA0 (io), 14 PA1 (io), 15 PA2 (io), 16 PA3 (io), 17 PA4 (io), 18 PA5 (io), 19 PA6/HD0 (io), 20 PA7/HD1 (io), 21 GND (power), 22 R (out), 23 G (out), 24 B (out), 25 BLK (out), 26 HSYNC (in), 27 VSYNC (in), 28 OSD OSCI (in), 29 OSD OSCO (out), 30 TST (in), 31 OSCI (in), 32 OSCO (out), 33 ~{RST} (in), 34 PC7 (io), 35 PC6/IRIN (io), 36 PC5 (io), 37 PC4/PWRIN (io), 38 PC3/SEN (io), 39 PC2 (io), 40 PC1/SDA (io), 41 PC0/SCL (io), 42 VDD (power)

## ST6397B1
designator U?
8-Bit HCMOS MCU For TV Frequency Synthesis with OSD; Published: 24-Aug-2001; LatestRevisionDate: 06-Jun-2005; LatestRevisionNote: Stylized 3D Model Added.; DatasheetVersion: Oct-1993; PackageVersion: Oct-2003; PackageReference: PSDIP42; Publisher: Altium Limited; PackageDescription: DIP, Plastic Shrink; 42 Leads; Row Spacing 15.24 mm; Pitch 1.78 mm; ComponentLink1Description: Manufacturer Link; ComponentLink1URL: http://www.st.com/
footprint PSDIP42 (DIP, Plastic Shrink; 42 Leads; Row Spacing 15.24 mm; Pitch 1.78 mm)
3D model PSDIP42 (DIP, Plastic Shrink; 42 Leads; Row Spacing 15.24 mm; Pitch 1.78 mm)
pins: 1 DA0 (oc), 2 DA1 (oc), 3 DA2 (oc), 4 DA3 (oc), 5 DA4 (oc), 6 DA5 (oc), 7 PB1 (io), 8 PB2 (io), 9 AFC (in), 10 PB4 (io), 11 PB5 (io), 12 PB6 (io), 13 PA0 (io), 14 PA1 (io), 15 PA2 (io), 16 PA3 (io), 17 PA4 (io), 18 PA5 (io), 19 PA6 (io), 20 PA7 (io), 21 GND (power), 22 R (out), 23 G (out), 24 B (out), 25 BLK (out), 26 ~{HSYNC} (in), 27 VSYNC (in), 28 OSD OSCI (in), 29 OSD OSCO (out), 30 TST (in), 31 OSCI (in), 32 OSCO (out), 33 ~{RST} (in), 34 PC7 (io), 35 PC6/IRIN (io), 36 PC5 (io), 37 PC4 (io), 38 PC3/SEN (io), 39 PC2 (io), 40 PC1/SDA (io), 41 PC0/SCL (io), 42 VDD (power)

## ST6399B1
designator U?
8-Bit HCMOS MCU For TV Frequency Synthesis with OSD; Published: 24-Aug-2001; LatestRevisionDate: 06-Jun-2005; LatestRevisionNote: Stylized 3D Model Added.; DatasheetVersion: Oct-1993; PackageVersion: Oct-2003; PackageReference: PSDIP42; Publisher: Altium Limited; PackageDescription: DIP, Plastic Shrink; 42 Leads; Row Spacing 15.24 mm; Pitch 1.78 mm; ComponentLink1Description: Manufacturer Link; ComponentLink1URL: http://www.st.com/
footprint PSDIP42 (DIP, Plastic Shrink; 42 Leads; Row Spacing 15.24 mm; Pitch 1.78 mm)
3D model PSDIP42 (DIP, Plastic Shrink; 42 Leads; Row Spacing 15.24 mm; Pitch 1.78 mm)
pins: 1 DA0 (oc), 2 DA1 (oc), 3 DA2 (oc), 4 DA3 (oc), 5 62.5kHz (oc), 6 PB0 (io), 7 PB1 (io), 8 PB2 (io), 9 PB3 (io), 10 PB4 (io), 11 PB5 (io), 12 PB6 (io), 13 PA0 (io), 14 PA1 (io), 15 PA2 (io), 16 PA3 (io), 17 PA4 (io), 18 PA5 (io), 19 PA6/HD0 (io), 20 PA7/HD1 (io), 21 GND (power), 22 R (out), 23 G (out), 24 B (out), 25 BLK (out), 26 HSYNC (in), 27 VSYNC (in), 28 OSD OSCI (in), 29 OSD OSCO (out), 30 TST (in), 31 OSCI (in), 32 OSCO (out), 33 ~{RST} (in), 34 PC7 (io), 35 PC6/IRIN (io), 36 PC5 (io), 37 PC4/PWRIN (io), 38 PC3/SEN (io), 39 PC2 (io), 40 PC1/SDA (io), 41 PC0/SCL (io), 42 VDD (power)

## ST7263BK1B1
designator U?
8-Bit MCU with 4k ROM, 384b RAM, Low Speed USB, 8-Bit ADC, WDG, Timer, 32-Pin PDIP; Published: 26-May-2004; LatestRevisionDate: 06-Jun-2005; LatestRevisionNote: Stylized 3D Model Added.; DatasheetVersion: rev1.5, Apr-2003; PackageVersion: rev1.7, Oct-2001; PackageReference: PSDIP32; Publisher: Altium Limited; PackageDescription: DIP, Plastic Shrink; 32 Leads; Row Spacing 10.16 mm; Pitch 1.78 mm; ComponentLink1Description: Manufacturer Link; ComponentLink1URL: http://www.st.com/; ComponentLink2Description: Datasheet; ComponentLink2URL: http://www.st.com/stonline/products/literature/ds/7516/st7263b.pdf
footprint PSDIP32 (DIP, Plastic Shrink; 32 Leads; Row Spacing 10.16 mm; Pitch 1.78 mm)
3D model PSDIP32 (DIP, Plastic Shrink; 32 Leads; Row Spacing 10.16 mm; Pitch 1.78 mm)
pins: 1 VDD (power), 2 OSCOUT (out), 3 OSCIN (in), 4 VSS (power), 5 PC2/USBOE (io), 6 PC1/TDO (io), 7 PC0/RDI (io), 8 ~{RESET} (io), 9 PB7 (10mA)/IT8/AIN7 (io), 10 PB6 (10mA)/IT7/AIN6 (io), 11 TEST (in), 12 PB5 (10mA)/IT6/AIN5 (io), 13 PB4 (10mA)/IT5/AIN4 (io), 14 PB3 (10mA)/AIN3 (io), 15 PB2 (10mA)/AIN2 (io), 16 PB1 (10mA)/AIN1 (io), 17 PB0 (10mA)/AIN0 (io), 18 PA7/COMP2/IT4 (io), 19 PA6/COMP1/IT3 (io), 20 PA5/ICAP2/IT2 (io), 21 PA4/ICAP1/IT1 (io), 22 PA3/EXTCLK (io), 23 PA2 (25mA)/SCL/ICCCLK (io), 24 NC, 25 NC, 26 PA1 (25mA)/SDA/ICCDATA (io), 27 PA0/MCO (io), 28 VSSA (power), 29 USBDP (io), 30 USBDM (io), 31 USBVCC (power), 32 VDDA (power)

## ST7263BK1M1
designator U?
8-Bit MCU with 4k ROM, 384b RAM, Low Speed USB, 8-Bit ADC, WDG, Timer, 34-Pin SOIC; Published: 26-May-2004; LatestRevisionDate: 13-Apr-2006; LatestRevisionNote: IPC-7351 Footprint Added.; DatasheetVersion: rev1.5, Apr-2003; PackageVersion: rev1.7, Oct-2001; PackageReference: SO34S; Publisher: Altium Limited; PackageDescription: 34-Pin Small Outline Package 1.02 mm Pitch; ComponentLink1Description: Manufacturer Link; ComponentLink1URL: http://www.st.com/; ComponentLink2Description: Datasheet; ComponentLink2URL: http://www.st.com/stonline/products/literature/ds/7516/st7263b.pdf
footprint SO34S_N (SOP, 34-Leads, Body 17.9x7.51mm, Pitch 1.02mm, IPC Medium Density)
footprint SO34S_L (SOP, 34-Leads, Body 17.9x7.51mm, Pitch 1.02mm, IPC High Density)
footprint SO34S_M (SOP, 34-Leads, Body 17.9x7.51mm, Pitch 1.02mm, IPC Low Density)
3D model SO34S (34-Pin Small Outline Package 1.02 mm Pitch)
pins: 1 VDD (power), 2 OSCOUT (out), 3 OSCIN (in), 4 VSS (power), 5 PC2/USBOE (io), 6 PC1/TDO (io), 7 PC0/RDI (io), 8 ~{RESET} (io), 9 NC, 10 PB7 (10mA)/IT8/AIN7 (io), 11 PB6 (10mA)/IT7/AIN6 (io), 12 TEST (in), 13 PB5 (10mA)/IT6/AIN5 (io), 14 PB4 (10mA)/IT5/AIN4 (io), 15 PB3 (10mA)/AIN3 (io), 16 PB2 (10mA)/AIN2 (io), 17 PB1 (10mA)/AIN1 (io), 18 PB0 (10mA)/AIN0 (io), 19 PA7/COMP2/IT4 (io), 20 PA6/COMP1/IT3 (io), 21 PA5/ICAP2/IT2 (io), 22 PA4/ICAP1/IT1 (io), 23 PA3/EXTCLK (io), 24 PA2 (25mA)/SCL/ICCCLK (io), 25 NC, 26 NC, 27 NC, 28 PA1 (25mA)/SDA/ICCDATA (io), 29 PA0/MCO (io), 30 VSSA (power), 31 USBDP (io), 32 USBDM (io), 33 USBVCC (power), 34 VDDA (power)

## ST7263BK2B1
designator U?
8-Bit MCU with 8k ROM, 384b RAM, Low Speed USB, 8-Bit ADC, WDG, Timer and SCI, 32-Pin PDIP; Published: 26-May-2004; LatestRevisionDate: 06-Jun-2005; LatestRevisionNote: Stylized 3D Model Added.; DatasheetVersion: rev1.5, Apr-2003; PackageVersion: rev1.7, Oct-2001; PackageReference: PSDIP32; Publisher: Altium Limited; PackageDescription: DIP, Plastic Shrink; 32 Leads; Row Spacing 10.16 mm; Pitch 1.78 mm; ComponentLink1Description: Manufacturer Link; ComponentLink1URL: http://www.st.com/; ComponentLink2Description: Datasheet; ComponentLink2URL: http://www.st.com/stonline/products/literature/ds/7516/st7263b.pdf
footprint PSDIP32 (DIP, Plastic Shrink; 32 Leads; Row Spacing 10.16 mm; Pitch 1.78 mm)
3D model PSDIP32 (DIP, Plastic Shrink; 32 Leads; Row Spacing 10.16 mm; Pitch 1.78 mm)
pins: 1 VDD (power), 2 OSCOUT (out), 3 OSCIN (in), 4 VSS (power), 5 PC2/USBOE (io), 6 PC1/TDO (io), 7 PC0/RDI (io), 8 ~{RESET} (io), 9 PB7 (10mA)/IT8/AIN7 (io), 10 PB6 (10mA)/IT7/AIN6 (io), 11 TEST (in), 12 PB5 (10mA)/IT6/AIN5 (io), 13 PB4 (10mA)/IT5/AIN4 (io), 14 PB3 (10mA)/AIN3 (io), 15 PB2 (10mA)/AIN2 (io), 16 PB1 (10mA)/AIN1 (io), 17 PB0 (10mA)/AIN0 (io), 18 PA7/COMP2/IT4 (io), 19 PA6/COMP1/IT3 (io), 20 PA5/ICAP2/IT2 (io), 21 PA4/ICAP1/IT1 (io), 22 PA3/EXTCLK (io), 23 PA2 (25mA)/SCL/ICCCLK (io), 24 NC, 25 NC, 26 PA1 (25mA)/SDA/ICCDATA (io), 27 PA0/MCO (io), 28 VSSA (power), 29 USBDP (io), 30 USBDM (io), 31 USBVCC (power), 32 VDDA (power)

## ST7263BK2M1
designator U?
8-Bit MCU with 8k ROM, 384b RAM, Low Speed USB, 8-Bit ADC, WDG, Timer and SCI, 34-Pin SOIC; Published: 26-May-2004; LatestRevisionDate: 13-Apr-2006; LatestRevisionNote: IPC-7351 Footprint Added.; DatasheetVersion: rev1.5, Apr-2003; PackageVersion: rev1.7, Oct-2001; PackageReference: SO34S; Publisher: Altium Limited; PackageDescription: 34-Pin Small Outline Package 1.02 mm Pitch; ComponentLink1Description: Manufacturer Link; ComponentLink1URL: http://www.st.com/; ComponentLink2Description: Datasheet; ComponentLink2URL: http://www.st.com/stonline/products/literature/ds/7516/st7263b.pdf
footprint SO34S_N (SOP, 34-Leads, Body 17.9x7.51mm, Pitch 1.02mm, IPC Medium Density)
footprint SO34S_L (SOP, 34-Leads, Body 17.9x7.51mm, Pitch 1.02mm, IPC High Density)
footprint SO34S_M (SOP, 34-Leads, Body 17.9x7.51mm, Pitch 1.02mm, IPC Low Density)
3D model SO34S (34-Pin Small Outline Package 1.02 mm Pitch)
pins: 1 VDD (power), 2 OSCOUT (out), 3 OSCIN (in), 4 VSS (power), 5 PC2/USBOE (io), 6 PC1/TDO (io), 7 PC0/RDI (io), 8 ~{RESET} (io), 9 NC, 10 PB7 (10mA)/IT8/AIN7 (io), 11 PB6 (10mA)/IT7/AIN6 (io), 12 TEST (in), 13 PB5 (10mA)/IT6/AIN5 (io), 14 PB4 (10mA)/IT5/AIN4 (io), 15 PB3 (10mA)/AIN3 (io), 16 PB2 (10mA)/AIN2 (io), 17 PB1 (10mA)/AIN1 (io), 18 PB0 (10mA)/AIN0 (io), 19 PA7/COMP2/IT4 (io), 20 PA6/COMP1/IT3 (io), 21 PA5/ICAP2/IT2 (io), 22 PA4/ICAP1/IT1 (io), 23 PA3/EXTCLK (io), 24 PA2 (25mA)/SCL/ICCCLK (io), 25 NC, 26 NC, 27 NC, 28 PA1 (25mA)/SDA/ICCDATA (io), 29 PA0/MCO (io), 30 VSSA (power), 31 USBDP (io), 32 USBDM (io), 33 USBVCC (power), 34 VDDA (power)

## ST7272N5B1
designator U?
8-Bit MCU with 24K ROM, EEPROM, ADC, PWM/BRM DACs, SYNC Processor, EWPCC, Timer & DDC Interface; Published: 24-Aug-2001; LatestRevisionDate: 06-Jun-2005; LatestRevisionNote: Stylized 3D Model Added.; DatasheetVersion: May-1996; PackageVersion: Jan-2002; PackageReference: PSDIP56; Publisher: Altium Limited; PackageDescription: DIP, Plastic Shrink; 56 Leads; Row Spacing 15.24 mm; Pitch 1.78 mm; ComponentLink1Description: Manufacturer Link; ComponentLink1URL: http://www.st.com/
footprint PSDIP56 (DIP, Plastic Shrink; 56 Leads; Row Spacing 15.24 mm; Pitch 1.78 mm)
3D model PSDIP56 (DIP, Plastic Shrink; 56 Leads; Row Spacing 15.24 mm; Pitch 1.78 mm)
pins: 1 VDDA (power), 2 EWPCC (out), 3 DA0 (out), 4 DA1 (out), 5 DA2 (out), 6 DA3 (out), 7 DA4 (out), 8 DA5 (out), 9 DA6 (out), 10 DA7 (out), 11 DA8 (out), 12 DA9 (out), 13 PB7 (io), 14 PB6 (io), 15 PB5 (io), 16 PB4 (io), 17 PB3 (io), 18 PB2 (io), 19 PB1 (io), 20 PB0/VFBACK (io), 21 PD4/VSYNCI2 (io), 22 PD3/CLMPO (io), 23 DA10 (out), 24 DA11 (out), 25 ~{RST} (io), 26 PD2/VSYNCO (io), 27 VSYNCI1 (in), 28 VDD (power), 29 HSYNCI1 (in), 30 PD1/HSYNCO (io), 31 PDO/CSYNCI (io), 32 OSCO (out), 33 OSCI (in), 34 DA12 (out), 35 DA13 (out), 36 PA7/BLKOUT (out), 37 PA6 (io), 38 PA5 (io), 39 PA4 (io), 40 PA3 (io), 41 PA2 (io), 42 PA1 (io), 43 PA0 (io), 44 DA14 (out), 45 DA15 (out), 46 DA16 (out), 47 DA17 (out), 48 TST (in), 49 PC0/OCMP/HFBACK (io), 50 PC1/HSYNC12 (io), 51 PC2/SCL1/RX (io), 52 PC3/SDA1/TX (io), 53 PC4 (io), 54 PC5 (io), 55 GND (power), 56 GNDA (power)

## ST7293C3B1
designator U?
8-Bit MCU with 3K ROM, EEPROM & 16-Bit Timer with Input Capture & Dual Output Compare; Published: 24-Aug-2001; LatestRevisionDate: 06-Jun-2005; LatestRevisionNote: Stylized 3D Model Added.; DatasheetVersion: Sep-1995; PackageVersion: Jan-2003; PackageReference: PDIP28; Publisher: Altium Limited; PackageDescription: DIP; 28 Leads; Row Spacing 15.24 mm; Pitch 2.54 mm; ComponentLink1Description: Manufacturer Link; ComponentLink1URL: http://www.st.com/
footprint PDIP28 (DIP; 28 Leads; Row Spacing 15.24 mm; Pitch 2.54 mm)
3D model PDIP28 (DIP; 28 Leads; Row Spacing 15.24 mm; Pitch 2.54 mm)
pins: 1 ~{INT}/VPP (in), 2 ~{RST} (io), 3 OSCI (in), 4 OSCO (out), 5 PB7 (io), 6 PB6 (io), 7 PB5 (io), 8 PB4 (io), 9 PB3 (io), 10 PB2 (io), 11 PB1 (io), 12 PB0 (io), 13 PC5 (io), 14 PC4 (io), 15 PC3 (io), 16 PC2 (io), 17 PC1(OCMP1) (io), 18 PC0(ICAP) (io), 19 PA7 (io), 20 PA6 (io), 21 PA5 (io), 22 PA4 (io), 23 PA3 (io), 24 PA2 (io), 25 PA1 (io), 26 PA0 (io), 27 VDD (power), 28 GND (power)

## ST7293C3B6
designator U?
8-Bit MCU with 3K ROM, EEPROM & 16-Bit Timer with Input Capture & Dual Output Compare; Published: 24-Aug-2001; LatestRevisionDate: 06-Jun-2005; LatestRevisionNote: Stylized 3D Model Added.; DatasheetVersion: Sep-1995; PackageVersion: Jan-2003; PackageReference: PDIP28; Publisher: Altium Limited; PackageDescription: DIP; 28 Leads; Row Spacing 15.24 mm; Pitch 2.54 mm; ComponentLink1Description: Manufacturer Link; ComponentLink1URL: http://www.st.com/
footprint PDIP28 (DIP; 28 Leads; Row Spacing 15.24 mm; Pitch 2.54 mm)
3D model PDIP28 (DIP; 28 Leads; Row Spacing 15.24 mm; Pitch 2.54 mm)
pins: 1 ~{INT}/VPP (in), 2 ~{RST} (io), 3 OSCI (in), 4 OSCO (out), 5 PB7 (io), 6 PB6 (io), 7 PB5 (io), 8 PB4 (io), 9 PB3 (io), 10 PB2 (io), 11 PB1 (io), 12 PB0 (io), 13 PC5 (io), 14 PC4 (io), 15 PC3 (io), 16 PC2 (io), 17 PC1(OCMP1) (io), 18 PC0(ICAP) (io), 19 PA7 (io), 20 PA6 (io), 21 PA5 (io), 22 PA4 (io), 23 PA3 (io), 24 PA2 (io), 25 PA1 (io), 26 PA0 (io), 27 VDD (power), 28 GND (power)

## ST7293C3M1
designator U?
8-Bit MCU with 3K ROM, EEPROM & 16-Bit Timer with Input Capture & Dual Output Compare; Published: 24-Aug-2001; LatestRevisionDate: 13-Apr-2006; LatestRevisionNote: IPC-7351 Footprint Added.; DatasheetVersion: Sep-1995; PackageVersion: Jul-2001; PackageReference: SO28; Publisher: Altium Limited; PackageDescription: 28-Pin Plastic Small Outline Integrated Circuit 1.27 mm Pitch; ComponentLink1Description: Manufacturer Link; ComponentLink1URL: http://www.st.com/
footprint SO28_N (SOIC, 28-Leads, Body 17.9x7.5mm, Pitch 1.27mm, IPC Medium Density)
footprint SO28_L (SOIC, 28-Leads, Body 17.9x7.5mm, Pitch 1.27mm, IPC High Density)
footprint SO28_M (SOIC, 28-Leads, Body 17.9x7.5mm, Pitch 1.27mm, IPC Low Density)
3D model SO28 (28-Pin Plastic Small Outline Integrated Circuit 1.27 mm Pitch)
pins: 1 ~{INT}/VPP (in), 2 ~{RST} (io), 3 OSCI (in), 4 OSCO (out), 5 PB7 (io), 6 PB6 (io), 7 PB5 (io), 8 PB4 (io), 9 PB3 (io), 10 PB2 (io), 11 PB1 (io), 12 PB0 (io), 13 PC5 (io), 14 PC4 (io), 15 PC3 (io), 16 PC2 (io), 17 PC1(OCMP1) (io), 18 PC0(ICAP) (io), 19 PA7 (io), 20 PA6 (io), 21 PA5 (io), 22 PA4 (io), 23 PA3 (io), 24 PA2 (io), 25 PA1 (io), 26 PA0 (io), 27 VDD (power), 28 GND (power)

## ST7293C3M6
designator U?
8-Bit MCU with 3K ROM, EEPROM & 16-Bit Timer with Input Capture & Dual Output Compare; Published: 24-Aug-2001; LatestRevisionDate: 13-Apr-2006; LatestRevisionNote: IPC-7351 Footprint Added.; DatasheetVersion: Sep-1995; PackageVersion: Jul-2001; PackageReference: SO28; Publisher: Altium Limited; PackageDescription: 28-Pin Plastic Small Outline Integrated Circuit 1.27 mm Pitch; ComponentLink1Description: Manufacturer Link; ComponentLink1URL: http://www.st.com/
footprint SO28_N (SOIC, 28-Leads, Body 17.9x7.5mm, Pitch 1.27mm, IPC Medium Density)
footprint SO28_L (SOIC, 28-Leads, Body 17.9x7.5mm, Pitch 1.27mm, IPC High Density)
footprint SO28_M (SOIC, 28-Leads, Body 17.9x7.5mm, Pitch 1.27mm, IPC Low Density)
3D model SO28 (28-Pin Plastic Small Outline Integrated Circuit 1.27 mm Pitch)
pins: 1 ~{INT}/VPP (in), 2 ~{RST} (io), 3 OSCI (in), 4 OSCO (out), 5 PB7 (io), 6 PB6 (io), 7 PB5 (io), 8 PB4 (io), 9 PB3 (io), 10 PB2 (io), 11 PB1 (io), 12 PB0 (io), 13 PC5 (io), 14 PC4 (io), 15 PC3 (io), 16 PC2 (io), 17 PC1(OCMP1) (io), 18 PC0(ICAP) (io), 19 PA7 (io), 20 PA6 (io), 21 PA5 (io), 22 PA4 (io), 23 PA3 (io), 24 PA2 (io), 25 PA1 (io), 26 PA0 (io), 27 VDD (power), 28 GND (power)

## ST7294C6B1
designator U?
8-Bit MCU with 6K ROM, EEPROM & 16-Bit Timer with Input Capture & Dual Output Compare; Published: 24-Aug-2001; LatestRevisionDate: 06-Jun-2005; LatestRevisionNote: Stylized 3D Model Added.; DatasheetVersion: Sep-1995; PackageVersion: Jan-2003; PackageReference: PDIP28; Publisher: Altium Limited; PackageDescription: DIP; 28 Leads; Row Spacing 15.24 mm; Pitch 2.54 mm; ComponentLink1Description: Manufacturer Link; ComponentLink1URL: http://www.st.com/
footprint PDIP28 (DIP; 28 Leads; Row Spacing 15.24 mm; Pitch 2.54 mm)
3D model PDIP28 (DIP; 28 Leads; Row Spacing 15.24 mm; Pitch 2.54 mm)
pins: 1 ~{INT}/VPP (in), 2 ~{RST} (io), 3 OSCI (in), 4 OSCO (out), 5 PB7 (io), 6 PB6 (io), 7 PB5 (io), 8 PB4 (io), 9 PB3 (io), 10 PB2 (io), 11 PB1 (io), 12 PB0 (io), 13 PC5 (io), 14 PC4 (io), 15 PC3 (io), 16 PC2 (io), 17 PC1(OCMP1) (io), 18 PC0(ICAP) (io), 19 PA7 (io), 20 PA6 (io), 21 PA5 (io), 22 PA4 (io), 23 PA3 (io), 24 PA2 (io), 25 PA1 (io), 26 PA0 (io), 27 VDD (power), 28 GND (power)

## ST7294C6B6
designator U?
8-Bit MCU with 6K ROM, EEPROM & 16-Bit Timer with Input Capture & Dual Output Compare; Published: 24-Aug-2001; LatestRevisionDate: 06-Jun-2005; LatestRevisionNote: Stylized 3D Model Added.; DatasheetVersion: Sep-1995; PackageVersion: Jan-2003; PackageReference: PDIP28; Publisher: Altium Limited; PackageDescription: DIP; 28 Leads; Row Spacing 15.24 mm; Pitch 2.54 mm; ComponentLink1Description: Manufacturer Link; ComponentLink1URL: http://www.st.com/
footprint PDIP28 (DIP; 28 Leads; Row Spacing 15.24 mm; Pitch 2.54 mm)
3D model PDIP28 (DIP; 28 Leads; Row Spacing 15.24 mm; Pitch 2.54 mm)
pins: 1 ~{INT}/VPP (in), 2 ~{RST} (io), 3 OSCI (in), 4 OSCO (out), 5 PB7 (io), 6 PB6 (io), 7 PB5 (io), 8 PB4 (io), 9 PB3 (io), 10 PB2 (io), 11 PB1 (io), 12 PB0 (io), 13 PC5 (io), 14 PC4 (io), 15 PC3 (io), 16 PC2 (io), 17 PC1(OCMP1) (io), 18 PC0(ICAP) (io), 19 PA7 (io), 20 PA6 (io), 21 PA5 (io), 22 PA4 (io), 23 PA3 (io), 24 PA2 (io), 25 PA1 (io), 26 PA0 (io), 27 VDD (power), 28 GND (power)

## ST7294C6M1
designator U?
8-Bit MCU with 6K ROM, EEPROM & 16-Bit Timer with Input Capture & Dual Output Compare; Published: 24-Aug-2001; LatestRevisionDate: 13-Apr-2006; LatestRevisionNote: IPC-7351 Footprint Added.; DatasheetVersion: Sep-1995; PackageVersion: Jul-2001; PackageReference: SO28; Publisher: Altium Limited; PackageDescription: 28-Pin Plastic Small Outline Integrated Circuit 1.27 mm Pitch; ComponentLink1Description: Manufacturer Link; ComponentLink1URL: http://www.st.com/
footprint SO28_N (SOIC, 28-Leads, Body 17.9x7.5mm, Pitch 1.27mm, IPC Medium Density)
footprint SO28_L (SOIC, 28-Leads, Body 17.9x7.5mm, Pitch 1.27mm, IPC High Density)
footprint SO28_M (SOIC, 28-Leads, Body 17.9x7.5mm, Pitch 1.27mm, IPC Low Density)
3D model SO28 (28-Pin Plastic Small Outline Integrated Circuit 1.27 mm Pitch)
pins: 1 ~{INT}/VPP (in), 2 ~{RST} (io), 3 OSCI (in), 4 OSCO (out), 5 PB7 (io), 6 PB6 (io), 7 PB5 (io), 8 PB4 (io), 9 PB3 (io), 10 PB2 (io), 11 PB1 (io), 12 PB0 (io), 13 PC5 (io), 14 PC4 (io), 15 PC3 (io), 16 PC2 (io), 17 PC1(OCMP1) (io), 18 PC0(ICAP) (io), 19 PA7 (io), 20 PA6 (io), 21 PA5 (io), 22 PA4 (io), 23 PA3 (io), 24 PA2 (io), 25 PA1 (io), 26 PA0 (io), 27 VDD (power), 28 GND (power)

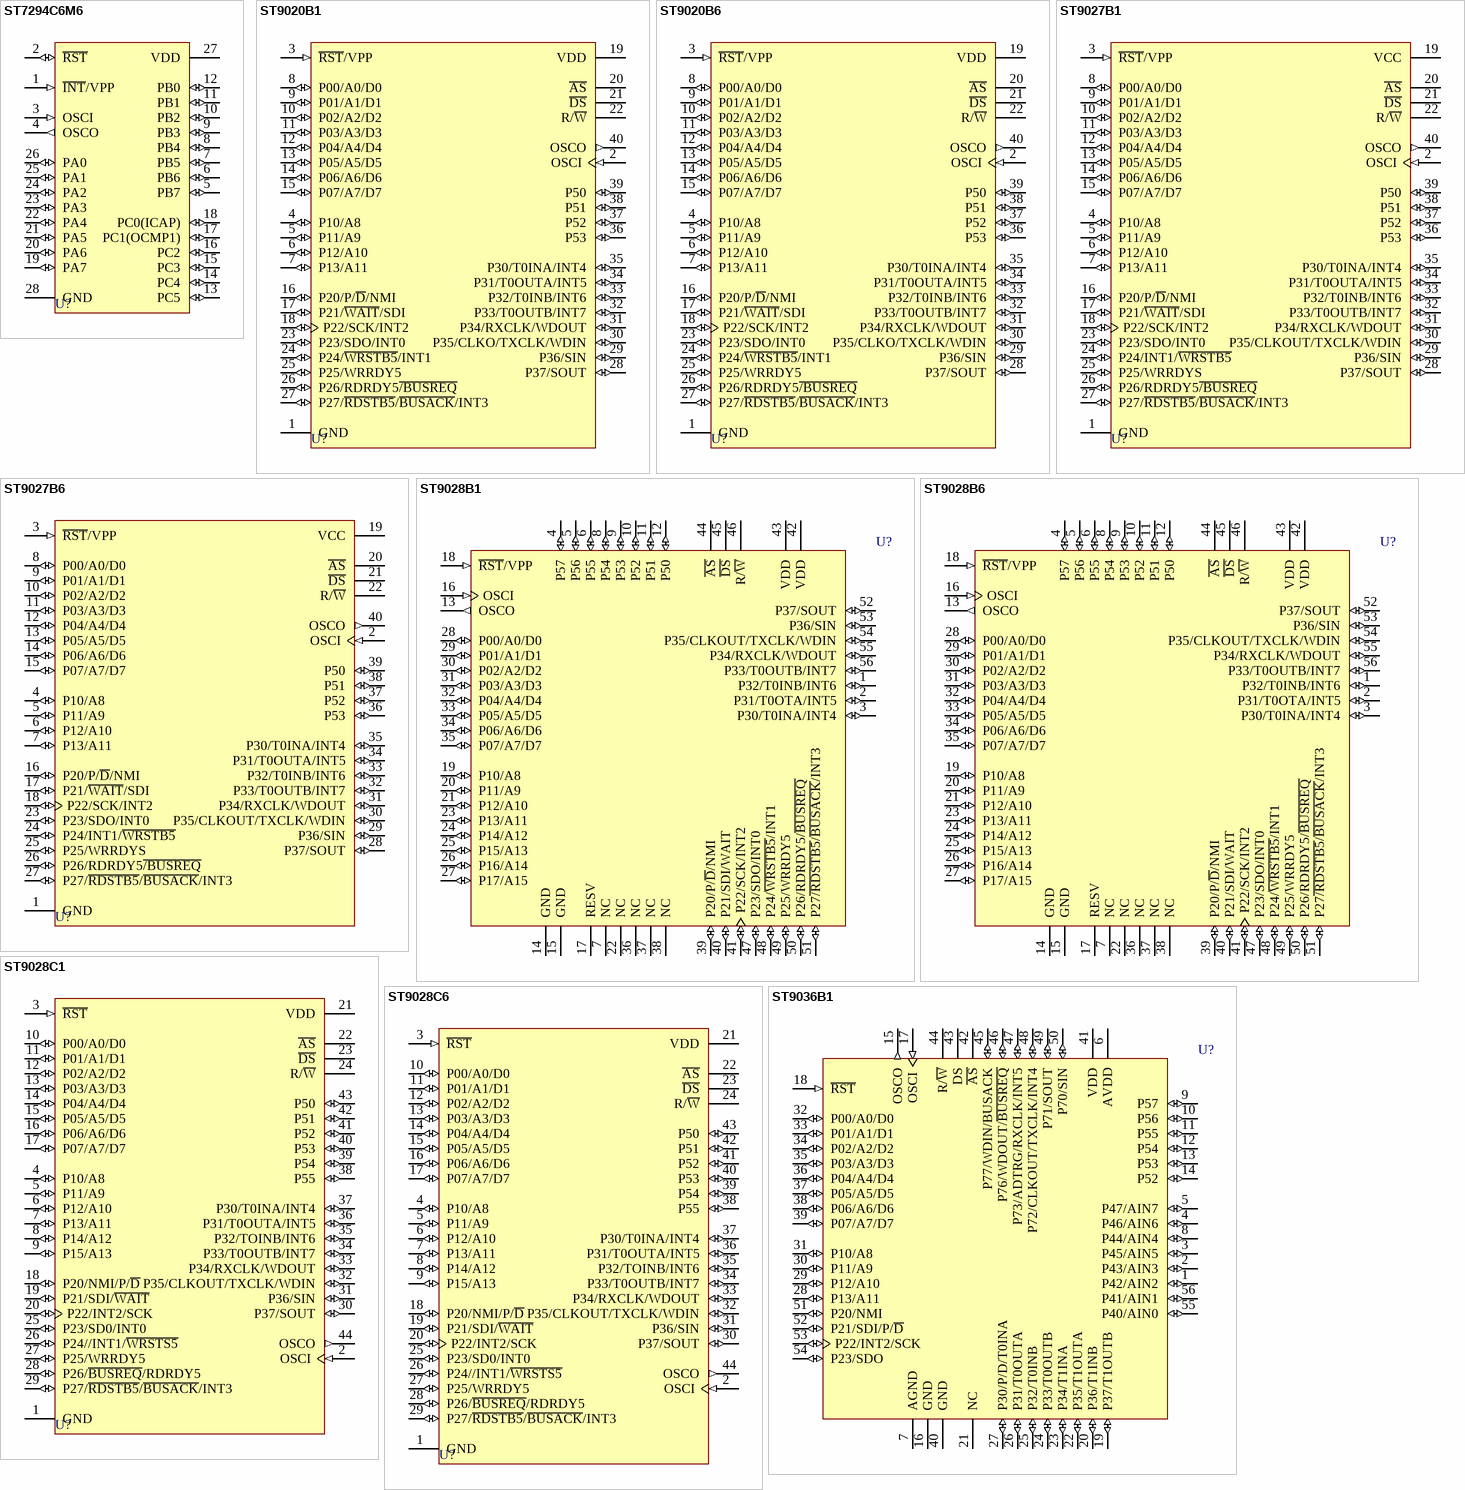
[diagram p93: symbols ST7294C6M6 to ST9036B1]

## ST7294C6M6
designator U?
8-Bit MCU with 6K ROM, EEPROM & 16-Bit Timer with Input Capture & Dual Output Compare; Published: 24-Aug-2001; LatestRevisionDate: 13-Apr-2006; LatestRevisionNote: IPC-7351 Footprint Added.; DatasheetVersion: Sep-1995; PackageVersion: Jul-2001; PackageReference: SO28; Publisher: Altium Limited; PackageDescription: 28-Pin Plastic Small Outline Integrated Circuit 1.27 mm Pitch; ComponentLink1Description: Manufacturer Link; ComponentLink1URL: http://www.st.com/
footprint SO28_N (SOIC, 28-Leads, Body 17.9x7.5mm, Pitch 1.27mm, IPC Medium Density)
footprint SO28_L (SOIC, 28-Leads, Body 17.9x7.5mm, Pitch 1.27mm, IPC High Density)
footprint SO28_M (SOIC, 28-Leads, Body 17.9x7.5mm, Pitch 1.27mm, IPC Low Density)
3D model SO28 (28-Pin Plastic Small Outline Integrated Circuit 1.27 mm Pitch)
pins: 1 ~{INT}/VPP (in), 2 ~{RST} (io), 3 OSCI (in), 4 OSCO (out), 5 PB7 (io), 6 PB6 (io), 7 PB5 (io), 8 PB4 (io), 9 PB3 (io), 10 PB2 (io), 11 PB1 (io), 12 PB0 (io), 13 PC5 (io), 14 PC4 (io), 15 PC3 (io), 16 PC2 (io), 17 PC1(OCMP1) (io), 18 PC0(ICAP) (io), 19 PA7 (io), 20 PA6 (io), 21 PA5 (io), 22 PA4 (io), 23 PA3 (io), 24 PA2 (io), 25 PA1 (io), 26 PA0 (io), 27 VDD (power), 28 GND (power)

## ST9020B1
designator U?
12/16K ROM HCMOS MCU; Published: 24-Aug-2001; LatestRevisionDate: 06-Jun-2005; LatestRevisionNote: Stylized 3D Model Added.; DatasheetVersion: Jan-1995; PackageVersion: Jun-1998; PackageReference: PDIP40; Publisher: Altium Limited; PackageDescription: DIP, Plastic; 40 Leads; Row Spacing 15.24 mm; Pitch 2.54 mm; ComponentLink1Description: Manufacturer Link; ComponentLink1URL: http://www.st.com/
footprint PDIP40 (DIP, Plastic; 40 Leads; Row Spacing 15.24 mm; Pitch 2.54 mm)
3D model PDIP40 (DIP, Plastic; 40 Leads; Row Spacing 15.24 mm; Pitch 2.54 mm)
pins: 1 GND (power), 2 OSCI (in), 3 ~{RST}/VPP (in), 4 P10/A8 (io), 5 P11/A9 (io), 6 P12/A10 (io), 7 P13/A11 (io), 8 P00/A0/D0 (io), 9 P01/A1/D1 (io), 10 P02/A2/D2 (io), 11 P03/A3/D3 (io), 12 P04/A4/D4 (io), 13 P05/A5/D5 (io), 14 P06/A6/D6 (io), 15 P07/A7/D7 (io), 16 P20/P/~{D}/NMI (io), 17 P21/~{WAIT}/SDI (io), 18 P22/SCK/INT2 (io), 19 VDD (power), 20 ~{AS} (hiz), 21 ~{DS} (hiz), 22 R/~{W} (hiz), 23 P23/SDO/INT0 (io), 24 P24/~{WRSTB5}/INT1 (io), 25 P25/WRRDY5 (io), 26 P26/RDRDY5~{/BUSREQ} (io), 27 P27/~{RDSTB5}/~{BUSACK}/INT3 (io), 28 P37/SOUT (io), 29 P36/SIN (io), 30 P35/CLKO/TXCLK/WDIN (io), 31 P34/RXCLK/WDOUT (io), 32 P33/T0OUTB/INT7 (io), 33 P32/T0INB/INT6 (io), 34 P31/T0OUTA/INT5 (io), 35 P30/T0INA/INT4 (io), 36 P53 (io), 37 P52 (io), 38 P51 (io), 39 P50 (io), 40 OSCO (out)

## ST9020B6
designator U?
12/16K ROM HCMOS MCU; Published: 24-Aug-2001; LatestRevisionDate: 06-Jun-2005; LatestRevisionNote: Stylized 3D Model Added.; DatasheetVersion: Jan-1995; PackageVersion: Jun-1998; PackageReference: PDIP40; Publisher: Altium Limited; PackageDescription: DIP, Plastic; 40 Leads; Row Spacing 15.24 mm; Pitch 2.54 mm; ComponentLink1Description: Manufacturer Link; ComponentLink1URL: http://www.st.com/
footprint PDIP40 (DIP, Plastic; 40 Leads; Row Spacing 15.24 mm; Pitch 2.54 mm)
3D model PDIP40 (DIP, Plastic; 40 Leads; Row Spacing 15.24 mm; Pitch 2.54 mm)
pins: 1 GND (power), 2 OSCI (in), 3 ~{RST}/VPP (in), 4 P10/A8 (io), 5 P11/A9 (io), 6 P12/A10 (io), 7 P13/A11 (io), 8 P00/A0/D0 (io), 9 P01/A1/D1 (io), 10 P02/A2/D2 (io), 11 P03/A3/D3 (io), 12 P04/A4/D4 (io), 13 P05/A5/D5 (io), 14 P06/A6/D6 (io), 15 P07/A7/D7 (io), 16 P20/P/~{D}/NMI (io), 17 P21/~{WAIT}/SDI (io), 18 P22/SCK/INT2 (io), 19 VDD (power), 20 ~{AS} (hiz), 21 ~{DS} (hiz), 22 R/~{W} (hiz), 23 P23/SDO/INT0 (io), 24 P24/~{WRSTB5}/INT1 (io), 25 P25/WRRDY5 (io), 26 P26/RDRDY5~{/BUSREQ} (io), 27 P27/~{RDSTB5}/~{BUSACK}/INT3 (io), 28 P37/SOUT (io), 29 P36/SIN (io), 30 P35/CLKO/TXCLK/WDIN (io), 31 P34/RXCLK/WDOUT (io), 32 P33/T0OUTB/INT7 (io), 33 P32/T0INB/INT6 (io), 34 P31/T0OUTA/INT5 (io), 35 P30/T0INA/INT4 (io), 36 P53 (io), 37 P52 (io), 38 P51 (io), 39 P50 (io), 40 OSCO (out)

## ST9027B1
designator U?
16K ROM /256 RAM HCMOS MCU; Published: 24-Aug-2001; LatestRevisionDate: 06-Jun-2005; LatestRevisionNote: Stylized 3D Model Added.; DatasheetVersion: Feb-1997; PackageVersion: Jun-1998; PackageReference: PDIP40; Publisher: Altium Limited; PackageDescription: DIP, Plastic; 40 Leads; Row Spacing 15.24 mm; Pitch 2.54 mm; ComponentLink1Description: Manufacturer Link; ComponentLink1URL: http://www.st.com/
footprint PDIP40 (DIP, Plastic; 40 Leads; Row Spacing 15.24 mm; Pitch 2.54 mm)
3D model PDIP40 (DIP, Plastic; 40 Leads; Row Spacing 15.24 mm; Pitch 2.54 mm)
pins: 1 GND (power), 2 OSCI (in), 3 ~{RST}/VPP (in), 4 P10/A8 (io), 5 P11/A9 (io), 6 P12/A10 (io), 7 P13/A11 (io), 8 P00/A0/D0 (io), 9 P01/A1/D1 (io), 10 P02/A2/D2 (io), 11 P03/A3/D3 (io), 12 P04/A4/D4 (io), 13 P05/A5/D5 (io), 14 P06/A6/D6 (io), 15 P07/A7/D7 (io), 16 P20/P/~{D}/NMI (io), 17 P21/~{WAIT}/SDI (io), 18 P22/SCK/INT2 (io), 19 VCC (power), 20 ~{AS} (hiz), 21 ~{DS} (hiz), 22 R/~{W} (hiz), 23 P23/SDO/INT0 (io), 24 P24/INT1/~{WRSTB5} (io), 25 P25/WRRDYS (io), 26 P26/RDRDY5~{/BUSREQ} (io), 27 P27/~{RDSTB5}/~{BUSACK}/INT3 (io), 28 P37/SOUT (io), 29 P36/SIN (io), 30 P35/CLKOUT/TXCLK/WDIN (io), 31 P34/RXCLK/WDOUT (io), 32 P33/T0OUTB/INT7 (io), 33 P32/T0INB/INT6 (io), 34 P31/T0OUTA/INT5 (io), 35 P30/T0INA/INT4 (io), 36 P53 (io), 37 P52 (io), 38 P51 (io), 39 P50 (io), 40 OSCO (out)

## ST9027B6
designator U?
16K ROM /256 RAM HCMOS MCU; Published: 24-Aug-2001; LatestRevisionDate: 06-Jun-2005; LatestRevisionNote: Stylized 3D Model Added.; DatasheetVersion: Feb-1997; PackageVersion: Jun-1998; PackageReference: PDIP40; Publisher: Altium Limited; PackageDescription: DIP, Plastic; 40 Leads; Row Spacing 15.24 mm; Pitch 2.54 mm; ComponentLink1Description: Manufacturer Link; ComponentLink1URL: http://www.st.com/
footprint PDIP40 (DIP, Plastic; 40 Leads; Row Spacing 15.24 mm; Pitch 2.54 mm)
3D model PDIP40 (DIP, Plastic; 40 Leads; Row Spacing 15.24 mm; Pitch 2.54 mm)
pins: 1 GND (power), 2 OSCI (in), 3 ~{RST}/VPP (in), 4 P10/A8 (io), 5 P11/A9 (io), 6 P12/A10 (io), 7 P13/A11 (io), 8 P00/A0/D0 (io), 9 P01/A1/D1 (io), 10 P02/A2/D2 (io), 11 P03/A3/D3 (io), 12 P04/A4/D4 (io), 13 P05/A5/D5 (io), 14 P06/A6/D6 (io), 15 P07/A7/D7 (io), 16 P20/P/~{D}/NMI (io), 17 P21/~{WAIT}/SDI (io), 18 P22/SCK/INT2 (io), 19 VCC (power), 20 ~{AS} (hiz), 21 ~{DS} (hiz), 22 R/~{W} (hiz), 23 P23/SDO/INT0 (io), 24 P24/INT1/~{WRSTB5} (io), 25 P25/WRRDYS (io), 26 P26/RDRDY5~{/BUSREQ} (io), 27 P27/~{RDSTB5}/~{BUSACK}/INT3 (io), 28 P37/SOUT (io), 29 P36/SIN (io), 30 P35/CLKOUT/TXCLK/WDIN (io), 31 P34/RXCLK/WDOUT (io), 32 P33/T0OUTB/INT7 (io), 33 P32/T0INB/INT6 (io), 34 P31/T0OUTA/INT5 (io), 35 P30/T0INA/INT4 (io), 36 P53 (io), 37 P52 (io), 38 P51 (io), 39 P50 (io), 40 OSCO (out)

## ST9028B1
designator U?
16K ROM /256 RAM HCMOS MCU; Published: 24-Aug-2001; LatestRevisionDate: 06-Jun-2005; LatestRevisionNote: Stylized 3D Model Added.; DatasheetVersion: Feb-1997; PackageVersion: Jan-2002; PackageReference: PSDIP56; Publisher: Altium Limited; PackageDescription: DIP, Plastic Shrink; 56 Leads; Row Spacing 15.24 mm; Pitch 1.78 mm; ComponentLink1Description: Manufacturer Link; ComponentLink1URL: http://www.st.com/
footprint PSDIP56 (DIP, Plastic Shrink; 56 Leads; Row Spacing 15.24 mm; Pitch 1.78 mm)
3D model PSDIP56 (DIP, Plastic Shrink; 56 Leads; Row Spacing 15.24 mm; Pitch 1.78 mm)
pins: 1 P32/T0INB/INT6 (io), 2 P31/T0OTA/INT5 (io), 3 P30/T0INA/INT4 (io), 4 P57 (io), 5 P56 (io), 6 P55 (io), 7 NC, 8 P54 (io), 9 P53 (io), 10 P52 (io), 11 P51 (io), 12 P50 (io), 13 OSCO (out), 14 GND (power), 15 GND (power), 16 OSCI (in), 17 RESV, 18 ~{RST}/VPP (in), 19 P10/A8 (io), 20 P11/A9 (io), 21 P12/A10 (io), 22 NC, 23 P13/A11 (io), 24 P14/A12 (io), 25 P15/A13 (io), 26 P16/A14 (io), 27 P17/A15 (io), 28 P00/A0/D0 (io), 29 P01/A1/D1 (io), 30 P02/A2/D2 (io), 31 P03/A3/D3 (io), 32 P04/A4/D4 (io), 33 P05/A5/D5 (io), 34 P06/A6/D6 (io), 35 P07/A7/D7 (io), 36 NC, 37 NC, 38 NC, 39 P20/P/~{D}/NMI (io), 40 P21/SDI/WAIT (io), 41 P22/SCK/INT2 (io), 42 VDD (power), 43 VDD (power), 44 ~{AS} (hiz), 45 ~{DS} (hiz), 46 R/~{W} (hiz), 47 P23/SDO/INT0 (io), 48 P24/~{WRSTB5}/INT1 (io), 49 P25/WRRDY5 (io), 50 P26/RDRDY5/~{BUSREQ} (io), 51 P27~{/RDSTB5}/~{BUSACK}/INT3 (io), 52 P37/SOUT (io), 53 P36/SIN (io), 54 P35/CLKOUT/TXCLK/WDIN (io), 55 P34/RXCLK/WDOUT (io), 56 P33/T0OUTB/INT7 (io)